# Altium integrated library Renesas Microcontroller R32C.IntLib: 205 symbols (part 7 of 22)
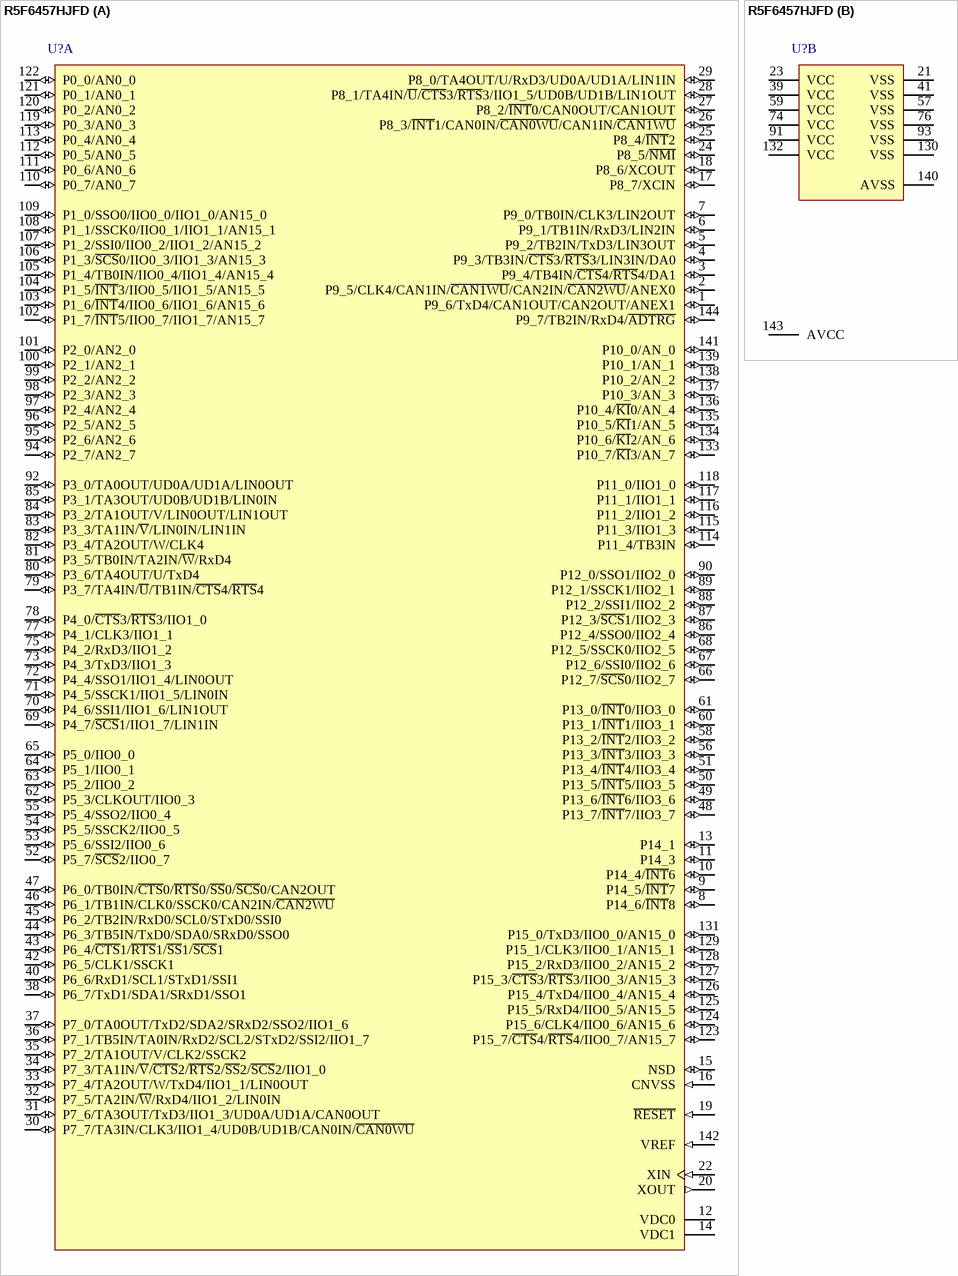
[diagram p145: symbol R5F6457HJFD]

## R5F6457HJFD
designator U?
Flash Memory R32C/100 Series, 157 Group MCU, 512K + 8K ROM, 32K RAM, 144-pin LQFP, Version J; Published: 28-Aug-2009; LatestRevisionDate: 26-Feb-2010; LatestRevisionNote: Updated to datasheet revision 1.02 Nov-2009.; DatasheetVersion: Rev.1.02, Nov-2009; PackageVersion: Sep-2005; PackageReference: PLQP0144KA-A; Publisher: Altium Limited; PackageDescription: 144-Pin Plastic Low Profile QFP, 20 x 20 x 1.4 mm Body, 0.5 mm Pitch; Code_JEITA: P-LQFP144-20x20-0.50; Code_IPC: SQFP50P2200X2200-144; ComponentLink1Description: Manufacturer Link; ComponentLink1URL: http://sg.renesas.com/fmwk.jsp?cnt=m16c_family_landing.jsp&fp=/products/mpumcu/m16c_family/; ComponentLink2Description: Datasheet; ComponentLink2URL: http://documentation.renesas.com/eng/products/mpumcu/rej03b0234_r32c157ds.pdf; ComponentLink3Description: Packaging Specification; ComponentLink3URL: http://sg.renesas.com/media/products/common_info/package/pdf/ic/code/plqp0144ka_a.pdf
footprint PLQP0144KA-A_N (Shrink QFP, 144-Leads, Body 20x20mm, Pitch 0.5mm, IPC Medium Density)
footprint PLQP0144KA-A_L (Shrink QFP, 144-Leads, Body 20x20mm, Pitch 0.5mm, IPC High Density)
footprint PLQP0144KA-A_M (Shrink QFP, 144-Leads, Body 20x20mm, Pitch 0.5mm, IPC Low Density)
part A pins: 1 P9_6/TxD4/CAN1OUT/CAN2OUT/ANEX1 (io), 2 P9_5/CLK4/CAN1IN/~{CAN1WU}/CAN2IN/~{CAN2WU}/ANEX0 (io), 3 P9_4/TB4IN/~{CTS}4/~{RTS}4/DA1 (io), 4 P9_3/TB3IN/~{CTS}3/~{RTS}3/LIN3IN/DA0 (io), 5 P9_2/TB2IN/TxD3/LIN3OUT (io), 6 P9_1/TB1IN/RxD3/LIN2IN (io), 7 P9_0/TB0IN/CLK3/LIN2OUT (io), 8 P14_6/~{INT}8 (io), 9 P14_5/~{INT}7 (io), 10 P14_4/~{INT}6 (io), 11 P14_3 (io), 12 VDC0, 13 P14_1 (io), 14 VDC1, 15 NSD (io), 16 CNVSS (in), 17 P8_7/XCIN (io), 18 P8_6/XCOUT (io), 19 ~{RESET} (in), 20 XOUT (out), 22 XIN (in), 24 P8_5/~{NMI} (io), 25 P8_4/~{INT}2 (io), 26 P8_3/~{INT}1/CAN0IN/~{CAN0WU}/CAN1IN/~{CAN1WU} (io), 27 P8_2/~{INT}0/CAN0OUT/CAN1OUT (io), 28 P8_1/TA4IN/~{U}/~{CTS}3/~{RTS}3/IIO1_5/UD0B/UD1B/LIN1OUT (io), 29 P8_0/TA4OUT/U/RxD3/UD0A/UD1A/LIN1IN (io), 30 P7_7/TA3IN/CLK3/IIO1_4/UD0B/UD1B/CAN0IN/~{CAN0WU} (io), 31 P7_6/TA3OUT/TxD3/IIO1_3/UD0A/UD1A/CAN0OUT (io), 32 P7_5/TA2IN/~{W}/RxD4/IIO1_2/LIN0IN (io), 33 P7_4/TA2OUT/W/TxD4/IIO1_1/LIN0OUT (io), 34 P7_3/TA1IN/~{V}/~{CTS}2/~{RTS}2/~{SS}2/~{SCS}2/IIO1_0 (io), 35 P7_2/TA1OUT/V/CLK2/SSCK2 (io), 36 P7_1/TB5IN/TA0IN/RxD2/SCL2/STxD2/SSI2/IIO1_7 (io), 37 P7_0/TA0OUT/TxD2/SDA2/SRxD2/SSO2/IIO1_6 (io), 38 P6_7/TxD1/SDA1/SRxD1/SSO1 (io), 40 P6_6/RxD1/SCL1/STxD1/SSI1 (io), 42 P6_5/CLK1/SSCK1 (io), 43 P6_4/~{CTS}1/~{RTS}1/~{SS}1/~{SCS}1 (io), 44 P6_3/TB5IN/TxD0/SDA0/SRxD0/SSO0 (io), 45 P6_2/TB2IN/RxD0/SCL0/STxD0/SSI0 (io), 46 P6_1/TB1IN/CLK0/SSCK0/CAN2IN/~{CAN2WU} (io), 47 P6_0/TB0IN/~{CTS}0/~{RTS}0/~{SS}0/~{SCS}0/CAN2OUT (io), 48 P13_7/~{INT}7/IIO3_7 (io), 49 P13_6/~{INT}6/IIO3_6 (io), 50 P13_5/~{INT}5/IIO3_5 (io), 51 P13_4/~{INT}4/IIO3_4 (io), 52 P5_7/~{SCS}2/IIO0_7 (io), 53 P5_6/SSI2/IIO0_6 (io), 54 P5_5/SSCK2/IIO0_5 (io), 55 P5_4/SSO2/IIO0_4 (io), 56 P13_3/~{INT}3/IIO3_3 (io), 58 P13_2/~{INT}2/IIO3_2 (io), 60 P13_1/~{INT}1/IIO3_1 (io), 61 P13_0/~{INT}0/IIO3_0 (io), 62 P5_3/CLKOUT/IIO0_3 (io), 63 P5_2/IIO0_2 (io), 64 P5_1/IIO0_1 (io), 65 P5_0/IIO0_0 (io), 66 P12_7/~{SCS}0/IIO2_7 (io), 67 P12_6/SSI0/IIO2_6 (io), 68 P12_5/SSCK0/IIO2_5 (io), 69 P4_7/~{SCS}1/IIO1_7/LIN1IN (io), 70 P4_6/SSI1/IIO1_6/LIN1OUT (io), 71 P4_5/SSCK1/IIO1_5/LIN0IN (io), 72 P4_4/SSO1/IIO1_4/LIN0OUT (io), 73 P4_3/TxD3/IIO1_3 (io), 75 P4_2/RxD3/IIO1_2 (io), 77 P4_1/CLK3/IIO1_1 (io), 78 P4_0/~{CTS}3/~{RTS}3/IIO1_0 (io), 79 P3_7/TA4IN/~{U}/TB1IN/~{CTS}4/~{RTS}4 (io), 80 P3_6/TA4OUT/U/TxD4 (io), 81 P3_5/TB0IN/TA2IN/~{W}/RxD4 (io), 82 P3_4/TA2OUT/W/CLK4 (io), 83 P3_3/TA1IN/~{V}/LIN0IN/LIN1IN (io), 84 P3_2/TA1OUT/V/LIN0OUT/LIN1OUT (io), 85 P3_1/TA3OUT/UD0B/UD1B/LIN0IN (io), 86 P12_4/SSO0/IIO2_4 (io), 87 P12_3/~{SCS}1/IIO2_3 (io), 88 P12_2/SSI1/IIO2_2 (io), 89 P12_1/SSCK1/IIO2_1 (io), 90 P12_0/SSO1/IIO2_0 (io), 92 P3_0/TA0OUT/UD0A/UD1A/LIN0OUT (io), 94 P2_7/AN2_7 (io), 95 P2_6/AN2_6 (io), 96 P2_5/AN2_5 (io), 97 P2_4/AN2_4 (io), 98 P2_3/AN2_3 (io), 99 P2_2/AN2_2 (io), 100 P2_1/AN2_1 (io), 101 P2_0/AN2_0 (io), 102 P1_7/~{INT}5/IIO0_7/IIO1_7/AN15_7 (io), 103 P1_6/~{INT}4/IIO0_6/IIO1_6/AN15_6 (io), 104 P1_5/~{INT}3/IIO0_5/IIO1_5/AN15_5 (io), 105 P1_4/TB0IN/IIO0_4/IIO1_4/AN15_4 (io), 106 P1_3/~{SCS}0/IIO0_3/IIO1_3/AN15_3 (io), 107 P1_2/SSI0/IIO0_2/IIO1_2/AN15_2 (io), 108 P1_1/SSCK0/IIO0_1/IIO1_1/AN15_1 (io), 109 P1_0/SSO0/IIO0_0/IIO1_0/AN15_0 (io), 110 P0_7/AN0_7 (io), 111 P0_6/AN0_6 (io), 112 P0_5/AN0_5 (io), 113 P0_4/AN0_4 (io), 114 P11_4/TB3IN (io), 115 P11_3/IIO1_3 (io), 116 P11_2/IIO1_2 (io), 117 P11_1/IIO1_1 (io), 118 P11_0/IIO1_0 (io), 119 P0_3/AN0_3 (io), 120 P0_2/AN0_2 (io), 121 P0_1/AN0_1 (io), 122 P0_0/AN0_0 (io), 123 P15_7/~{CTS}4/~{RTS}4/IIO0_7/AN15_7 (io), 124 P15_6/CLK4/IIO0_6/AN15_6 (io), 125 P15_5/RxD4/IIO0_5/AN15_5 (io), 126 P15_4/TxD4/IIO0_4/AN15_4 (io), 127 P15_3/~{CTS}3/~{RTS}3/IIO0_3/AN15_3 (io), 128 P15_2/RxD3/IIO0_2/AN15_2 (io), 129 P15_1/CLK3/IIO0_1/AN15_1 (io), 131 P15_0/TxD3/IIO0_0/AN15_0 (io), 133 P10_7/~{KI}3/AN_7 (io), 134 P10_6/~{KI}2/AN_6 (io), 135 P10_5/~{KI}1/AN_5 (io), 136 P10_4/~{KI}0/AN_4 (io), 137 P10_3/AN_3 (io), 138 P10_2/AN_2 (io), 139 P10_1/AN_1 (io), 141 P10_0/AN_0 (io), 142 VREF (in), 144 P9_7/TB2IN/RxD4/~{ADTRG} (io)
part B pins: 21 VSS (power), 23 VCC (power), 39 VCC (power), 41 VSS (power), 57 VSS (power), 59 VCC (power), 74 VCC (power), 76 VSS (power), 91 VCC (power), 93 VSS (power), 130 VSS (power), 132 VCC (power), 140 AVSS (power), 143 AVCC (power)

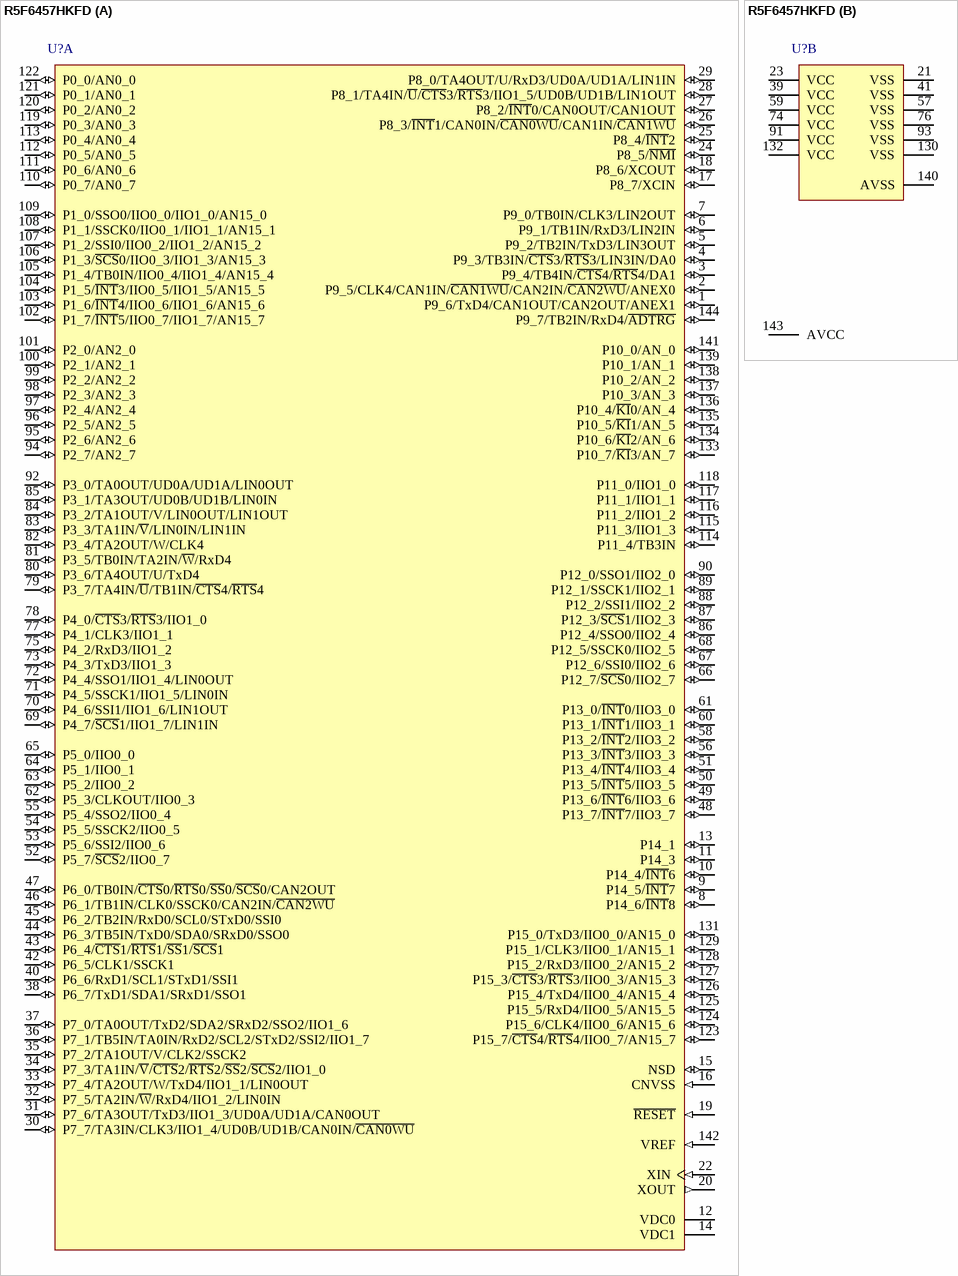
[diagram p33: symbol R5F6457HKFD]

## R5F6457HKFD
designator U?
Flash Memory R32C/100 Series, 157 Group MCU, 512K + 8K ROM, 32K RAM, 144-pin LQFP, Version K; Published: 28-Aug-2009; LatestRevisionDate: 26-Feb-2010; LatestRevisionNote: Updated to datasheet revision 1.02 Nov-2009.; DatasheetVersion: Rev.1.02, Nov-2009; PackageVersion: Sep-2005; PackageReference: PLQP0144KA-A; Publisher: Altium Limited; PackageDescription: 144-Pin Plastic Low Profile QFP, 20 x 20 x 1.4 mm Body, 0.5 mm Pitch; Code_JEITA: P-LQFP144-20x20-0.50; Code_IPC: SQFP50P2200X2200-144; ComponentLink1Description: Manufacturer Link; ComponentLink1URL: http://sg.renesas.com/fmwk.jsp?cnt=m16c_family_landing.jsp&fp=/products/mpumcu/m16c_family/; ComponentLink2Description: Datasheet; ComponentLink2URL: http://documentation.renesas.com/eng/products/mpumcu/rej03b0234_r32c157ds.pdf; ComponentLink3Description: Packaging Specification; ComponentLink3URL: http://sg.renesas.com/media/products/common_info/package/pdf/ic/code/plqp0144ka_a.pdf
footprint PLQP0144KA-A_N (Shrink QFP, 144-Leads, Body 20x20mm, Pitch 0.5mm, IPC Medium Density)
footprint PLQP0144KA-A_L (Shrink QFP, 144-Leads, Body 20x20mm, Pitch 0.5mm, IPC High Density)
footprint PLQP0144KA-A_M (Shrink QFP, 144-Leads, Body 20x20mm, Pitch 0.5mm, IPC Low Density)
part A pins: 1 P9_6/TxD4/CAN1OUT/CAN2OUT/ANEX1 (io), 2 P9_5/CLK4/CAN1IN/~{CAN1WU}/CAN2IN/~{CAN2WU}/ANEX0 (io), 3 P9_4/TB4IN/~{CTS}4/~{RTS}4/DA1 (io), 4 P9_3/TB3IN/~{CTS}3/~{RTS}3/LIN3IN/DA0 (io), 5 P9_2/TB2IN/TxD3/LIN3OUT (io), 6 P9_1/TB1IN/RxD3/LIN2IN (io), 7 P9_0/TB0IN/CLK3/LIN2OUT (io), 8 P14_6/~{INT}8 (io), 9 P14_5/~{INT}7 (io), 10 P14_4/~{INT}6 (io), 11 P14_3 (io), 12 VDC0, 13 P14_1 (io), 14 VDC1, 15 NSD (io), 16 CNVSS (in), 17 P8_7/XCIN (io), 18 P8_6/XCOUT (io), 19 ~{RESET} (in), 20 XOUT (out), 22 XIN (in), 24 P8_5/~{NMI} (io), 25 P8_4/~{INT}2 (io), 26 P8_3/~{INT}1/CAN0IN/~{CAN0WU}/CAN1IN/~{CAN1WU} (io), 27 P8_2/~{INT}0/CAN0OUT/CAN1OUT (io), 28 P8_1/TA4IN/~{U}/~{CTS}3/~{RTS}3/IIO1_5/UD0B/UD1B/LIN1OUT (io), 29 P8_0/TA4OUT/U/RxD3/UD0A/UD1A/LIN1IN (io), 30 P7_7/TA3IN/CLK3/IIO1_4/UD0B/UD1B/CAN0IN/~{CAN0WU} (io), 31 P7_6/TA3OUT/TxD3/IIO1_3/UD0A/UD1A/CAN0OUT (io), 32 P7_5/TA2IN/~{W}/RxD4/IIO1_2/LIN0IN (io), 33 P7_4/TA2OUT/W/TxD4/IIO1_1/LIN0OUT (io), 34 P7_3/TA1IN/~{V}/~{CTS}2/~{RTS}2/~{SS}2/~{SCS}2/IIO1_0 (io), 35 P7_2/TA1OUT/V/CLK2/SSCK2 (io), 36 P7_1/TB5IN/TA0IN/RxD2/SCL2/STxD2/SSI2/IIO1_7 (io), 37 P7_0/TA0OUT/TxD2/SDA2/SRxD2/SSO2/IIO1_6 (io), 38 P6_7/TxD1/SDA1/SRxD1/SSO1 (io), 40 P6_6/RxD1/SCL1/STxD1/SSI1 (io), 42 P6_5/CLK1/SSCK1 (io), 43 P6_4/~{CTS}1/~{RTS}1/~{SS}1/~{SCS}1 (io), 44 P6_3/TB5IN/TxD0/SDA0/SRxD0/SSO0 (io), 45 P6_2/TB2IN/RxD0/SCL0/STxD0/SSI0 (io), 46 P6_1/TB1IN/CLK0/SSCK0/CAN2IN/~{CAN2WU} (io), 47 P6_0/TB0IN/~{CTS}0/~{RTS}0/~{SS}0/~{SCS}0/CAN2OUT (io), 48 P13_7/~{INT}7/IIO3_7 (io), 49 P13_6/~{INT}6/IIO3_6 (io), 50 P13_5/~{INT}5/IIO3_5 (io), 51 P13_4/~{INT}4/IIO3_4 (io), 52 P5_7/~{SCS}2/IIO0_7 (io), 53 P5_6/SSI2/IIO0_6 (io), 54 P5_5/SSCK2/IIO0_5 (io), 55 P5_4/SSO2/IIO0_4 (io), 56 P13_3/~{INT}3/IIO3_3 (io), 58 P13_2/~{INT}2/IIO3_2 (io), 60 P13_1/~{INT}1/IIO3_1 (io), 61 P13_0/~{INT}0/IIO3_0 (io), 62 P5_3/CLKOUT/IIO0_3 (io), 63 P5_2/IIO0_2 (io), 64 P5_1/IIO0_1 (io), 65 P5_0/IIO0_0 (io), 66 P12_7/~{SCS}0/IIO2_7 (io), 67 P12_6/SSI0/IIO2_6 (io), 68 P12_5/SSCK0/IIO2_5 (io), 69 P4_7/~{SCS}1/IIO1_7/LIN1IN (io), 70 P4_6/SSI1/IIO1_6/LIN1OUT (io), 71 P4_5/SSCK1/IIO1_5/LIN0IN (io), 72 P4_4/SSO1/IIO1_4/LIN0OUT (io), 73 P4_3/TxD3/IIO1_3 (io), 75 P4_2/RxD3/IIO1_2 (io), 77 P4_1/CLK3/IIO1_1 (io), 78 P4_0/~{CTS}3/~{RTS}3/IIO1_0 (io), 79 P3_7/TA4IN/~{U}/TB1IN/~{CTS}4/~{RTS}4 (io), 80 P3_6/TA4OUT/U/TxD4 (io), 81 P3_5/TB0IN/TA2IN/~{W}/RxD4 (io), 82 P3_4/TA2OUT/W/CLK4 (io), 83 P3_3/TA1IN/~{V}/LIN0IN/LIN1IN (io), 84 P3_2/TA1OUT/V/LIN0OUT/LIN1OUT (io), 85 P3_1/TA3OUT/UD0B/UD1B/LIN0IN (io), 86 P12_4/SSO0/IIO2_4 (io), 87 P12_3/~{SCS}1/IIO2_3 (io), 88 P12_2/SSI1/IIO2_2 (io), 89 P12_1/SSCK1/IIO2_1 (io), 90 P12_0/SSO1/IIO2_0 (io), 92 P3_0/TA0OUT/UD0A/UD1A/LIN0OUT (io), 94 P2_7/AN2_7 (io), 95 P2_6/AN2_6 (io), 96 P2_5/AN2_5 (io), 97 P2_4/AN2_4 (io), 98 P2_3/AN2_3 (io), 99 P2_2/AN2_2 (io), 100 P2_1/AN2_1 (io), 101 P2_0/AN2_0 (io), 102 P1_7/~{INT}5/IIO0_7/IIO1_7/AN15_7 (io), 103 P1_6/~{INT}4/IIO0_6/IIO1_6/AN15_6 (io), 104 P1_5/~{INT}3/IIO0_5/IIO1_5/AN15_5 (io), 105 P1_4/TB0IN/IIO0_4/IIO1_4/AN15_4 (io), 106 P1_3/~{SCS}0/IIO0_3/IIO1_3/AN15_3 (io), 107 P1_2/SSI0/IIO0_2/IIO1_2/AN15_2 (io), 108 P1_1/SSCK0/IIO0_1/IIO1_1/AN15_1 (io), 109 P1_0/SSO0/IIO0_0/IIO1_0/AN15_0 (io), 110 P0_7/AN0_7 (io), 111 P0_6/AN0_6 (io), 112 P0_5/AN0_5 (io), 113 P0_4/AN0_4 (io), 114 P11_4/TB3IN (io), 115 P11_3/IIO1_3 (io), 116 P11_2/IIO1_2 (io), 117 P11_1/IIO1_1 (io), 118 P11_0/IIO1_0 (io), 119 P0_3/AN0_3 (io), 120 P0_2/AN0_2 (io), 121 P0_1/AN0_1 (io), 122 P0_0/AN0_0 (io), 123 P15_7/~{CTS}4/~{RTS}4/IIO0_7/AN15_7 (io), 124 P15_6/CLK4/IIO0_6/AN15_6 (io), 125 P15_5/RxD4/IIO0_5/AN15_5 (io), 126 P15_4/TxD4/IIO0_4/AN15_4 (io), 127 P15_3/~{CTS}3/~{RTS}3/IIO0_3/AN15_3 (io), 128 P15_2/RxD3/IIO0_2/AN15_2 (io), 129 P15_1/CLK3/IIO0_1/AN15_1 (io), 131 P15_0/TxD3/IIO0_0/AN15_0 (io), 133 P10_7/~{KI}3/AN_7 (io), 134 P10_6/~{KI}2/AN_6 (io), 135 P10_5/~{KI}1/AN_5 (io), 136 P10_4/~{KI}0/AN_4 (io), 137 P10_3/AN_3 (io), 138 P10_2/AN_2 (io), 139 P10_1/AN_1 (io), 141 P10_0/AN_0 (io), 142 VREF (in), 144 P9_7/TB2IN/RxD4/~{ADTRG} (io)
part B pins: 21 VSS (power), 23 VCC (power), 39 VCC (power), 41 VSS (power), 57 VSS (power), 59 VCC (power), 74 VCC (power), 76 VSS (power), 91 VCC (power), 93 VSS (power), 130 VSS (power), 132 VCC (power), 140 AVSS (power), 143 AVCC (power)

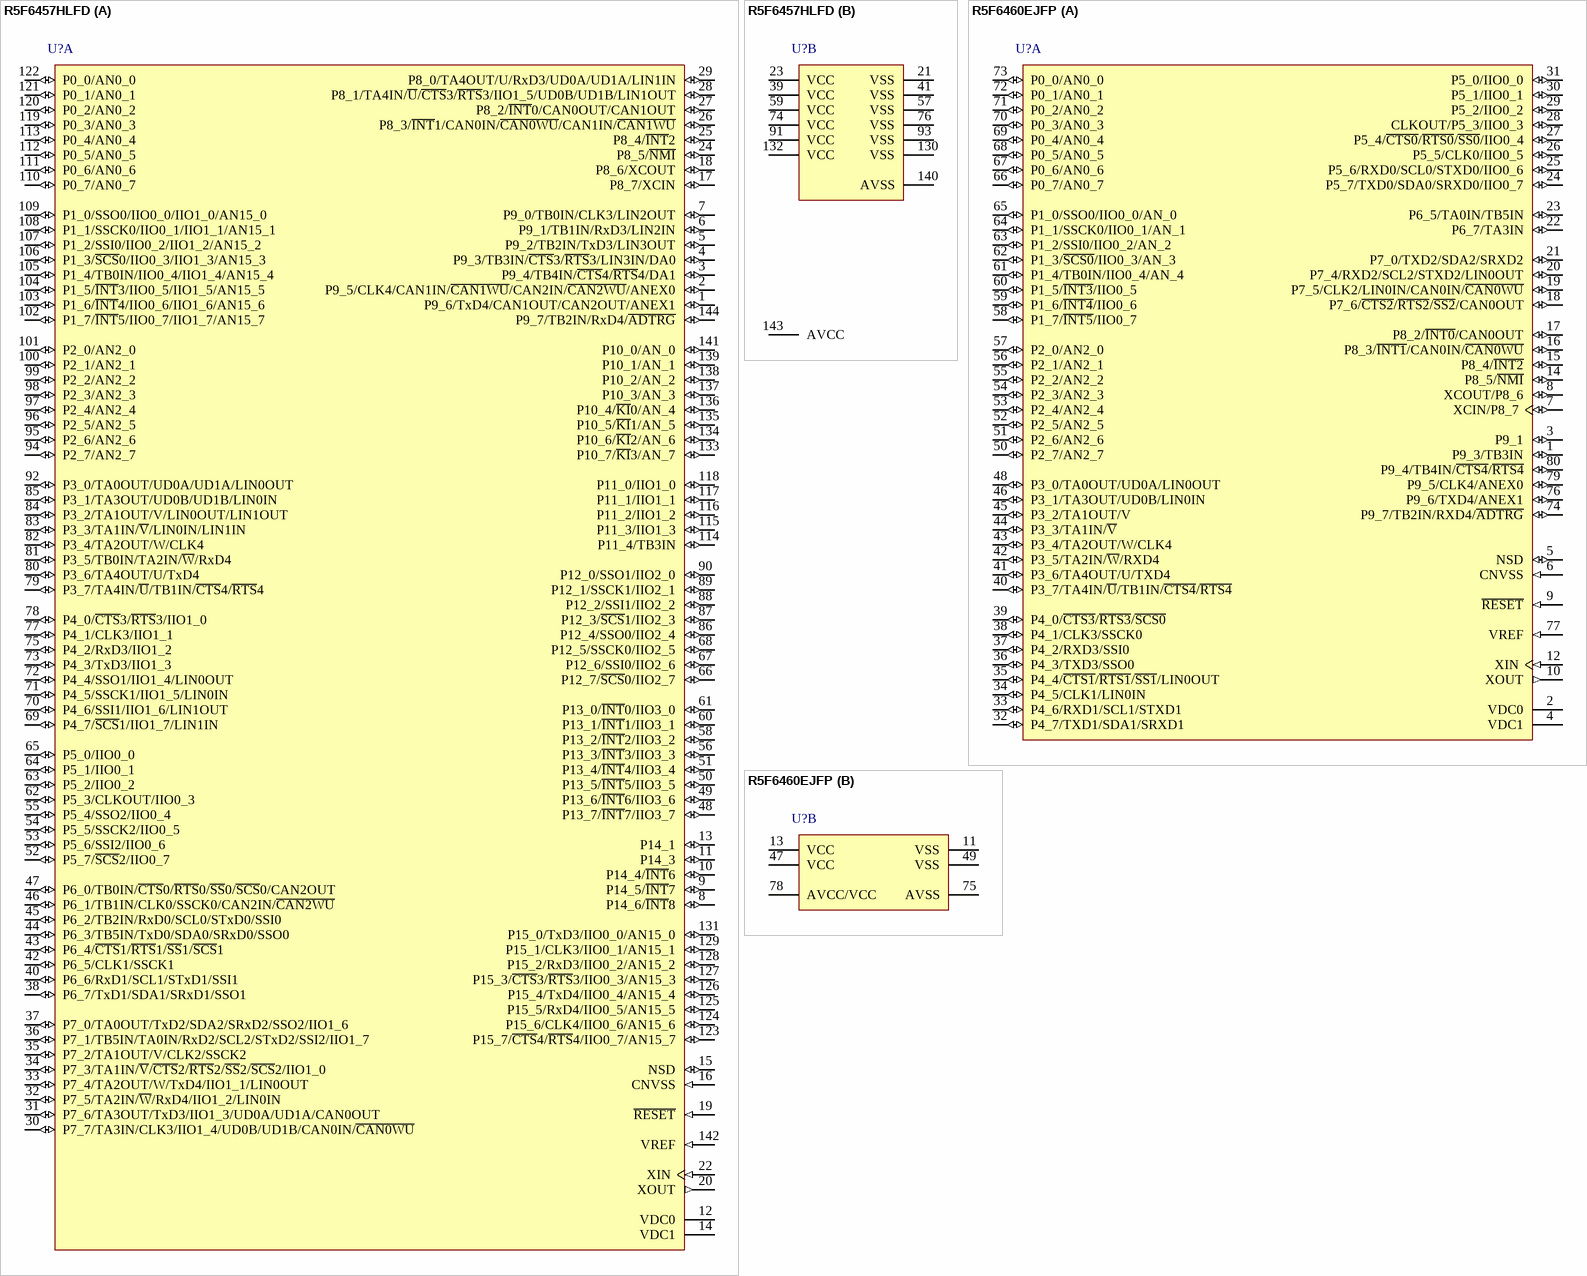
[diagram p34: symbols R5F6457HLFD to R5F6460EJFP]

## R5F6457HLFD
designator U?
Flash Memory R32C/100 Series, 157 Group MCU, 512K + 8K ROM, 32K RAM, 144-pin LQFP, Version L; Published: 28-Aug-2009; LatestRevisionDate: 26-Feb-2010; LatestRevisionNote: Updated to datasheet revision 1.02 Nov-2009.; DatasheetVersion: Rev.1.02, Nov-2009; PackageVersion: Sep-2005; PackageReference: PLQP0144KA-A; Publisher: Altium Limited; PackageDescription: 144-Pin Plastic Low Profile QFP, 20 x 20 x 1.4 mm Body, 0.5 mm Pitch; Code_JEITA: P-LQFP144-20x20-0.50; Code_IPC: SQFP50P2200X2200-144; ComponentLink1Description: Manufacturer Link; ComponentLink1URL: http://sg.renesas.com/fmwk.jsp?cnt=m16c_family_landing.jsp&fp=/products/mpumcu/m16c_family/; ComponentLink2Description: Datasheet; ComponentLink2URL: http://documentation.renesas.com/eng/products/mpumcu/rej03b0234_r32c157ds.pdf; ComponentLink3Description: Packaging Specification; ComponentLink3URL: http://sg.renesas.com/media/products/common_info/package/pdf/ic/code/plqp0144ka_a.pdf
footprint PLQP0144KA-A_N (Shrink QFP, 144-Leads, Body 20x20mm, Pitch 0.5mm, IPC Medium Density)
footprint PLQP0144KA-A_L (Shrink QFP, 144-Leads, Body 20x20mm, Pitch 0.5mm, IPC High Density)
footprint PLQP0144KA-A_M (Shrink QFP, 144-Leads, Body 20x20mm, Pitch 0.5mm, IPC Low Density)
part A pins: 1 P9_6/TxD4/CAN1OUT/CAN2OUT/ANEX1 (io), 2 P9_5/CLK4/CAN1IN/~{CAN1WU}/CAN2IN/~{CAN2WU}/ANEX0 (io), 3 P9_4/TB4IN/~{CTS}4/~{RTS}4/DA1 (io), 4 P9_3/TB3IN/~{CTS}3/~{RTS}3/LIN3IN/DA0 (io), 5 P9_2/TB2IN/TxD3/LIN3OUT (io), 6 P9_1/TB1IN/RxD3/LIN2IN (io), 7 P9_0/TB0IN/CLK3/LIN2OUT (io), 8 P14_6/~{INT}8 (io), 9 P14_5/~{INT}7 (io), 10 P14_4/~{INT}6 (io), 11 P14_3 (io), 12 VDC0, 13 P14_1 (io), 14 VDC1, 15 NSD (io), 16 CNVSS (in), 17 P8_7/XCIN (io), 18 P8_6/XCOUT (io), 19 ~{RESET} (in), 20 XOUT (out), 22 XIN (in), 24 P8_5/~{NMI} (io), 25 P8_4/~{INT}2 (io), 26 P8_3/~{INT}1/CAN0IN/~{CAN0WU}/CAN1IN/~{CAN1WU} (io), 27 P8_2/~{INT}0/CAN0OUT/CAN1OUT (io), 28 P8_1/TA4IN/~{U}/~{CTS}3/~{RTS}3/IIO1_5/UD0B/UD1B/LIN1OUT (io), 29 P8_0/TA4OUT/U/RxD3/UD0A/UD1A/LIN1IN (io), 30 P7_7/TA3IN/CLK3/IIO1_4/UD0B/UD1B/CAN0IN/~{CAN0WU} (io), 31 P7_6/TA3OUT/TxD3/IIO1_3/UD0A/UD1A/CAN0OUT (io), 32 P7_5/TA2IN/~{W}/RxD4/IIO1_2/LIN0IN (io), 33 P7_4/TA2OUT/W/TxD4/IIO1_1/LIN0OUT (io), 34 P7_3/TA1IN/~{V}/~{CTS}2/~{RTS}2/~{SS}2/~{SCS}2/IIO1_0 (io), 35 P7_2/TA1OUT/V/CLK2/SSCK2 (io), 36 P7_1/TB5IN/TA0IN/RxD2/SCL2/STxD2/SSI2/IIO1_7 (io), 37 P7_0/TA0OUT/TxD2/SDA2/SRxD2/SSO2/IIO1_6 (io), 38 P6_7/TxD1/SDA1/SRxD1/SSO1 (io), 40 P6_6/RxD1/SCL1/STxD1/SSI1 (io), 42 P6_5/CLK1/SSCK1 (io), 43 P6_4/~{CTS}1/~{RTS}1/~{SS}1/~{SCS}1 (io), 44 P6_3/TB5IN/TxD0/SDA0/SRxD0/SSO0 (io), 45 P6_2/TB2IN/RxD0/SCL0/STxD0/SSI0 (io), 46 P6_1/TB1IN/CLK0/SSCK0/CAN2IN/~{CAN2WU} (io), 47 P6_0/TB0IN/~{CTS}0/~{RTS}0/~{SS}0/~{SCS}0/CAN2OUT (io), 48 P13_7/~{INT}7/IIO3_7 (io), 49 P13_6/~{INT}6/IIO3_6 (io), 50 P13_5/~{INT}5/IIO3_5 (io), 51 P13_4/~{INT}4/IIO3_4 (io), 52 P5_7/~{SCS}2/IIO0_7 (io), 53 P5_6/SSI2/IIO0_6 (io), 54 P5_5/SSCK2/IIO0_5 (io), 55 P5_4/SSO2/IIO0_4 (io), 56 P13_3/~{INT}3/IIO3_3 (io), 58 P13_2/~{INT}2/IIO3_2 (io), 60 P13_1/~{INT}1/IIO3_1 (io), 61 P13_0/~{INT}0/IIO3_0 (io), 62 P5_3/CLKOUT/IIO0_3 (io), 63 P5_2/IIO0_2 (io), 64 P5_1/IIO0_1 (io), 65 P5_0/IIO0_0 (io), 66 P12_7/~{SCS}0/IIO2_7 (io), 67 P12_6/SSI0/IIO2_6 (io), 68 P12_5/SSCK0/IIO2_5 (io), 69 P4_7/~{SCS}1/IIO1_7/LIN1IN (io), 70 P4_6/SSI1/IIO1_6/LIN1OUT (io), 71 P4_5/SSCK1/IIO1_5/LIN0IN (io), 72 P4_4/SSO1/IIO1_4/LIN0OUT (io), 73 P4_3/TxD3/IIO1_3 (io), 75 P4_2/RxD3/IIO1_2 (io), 77 P4_1/CLK3/IIO1_1 (io), 78 P4_0/~{CTS}3/~{RTS}3/IIO1_0 (io), 79 P3_7/TA4IN/~{U}/TB1IN/~{CTS}4/~{RTS}4 (io), 80 P3_6/TA4OUT/U/TxD4 (io), 81 P3_5/TB0IN/TA2IN/~{W}/RxD4 (io), 82 P3_4/TA2OUT/W/CLK4 (io), 83 P3_3/TA1IN/~{V}/LIN0IN/LIN1IN (io), 84 P3_2/TA1OUT/V/LIN0OUT/LIN1OUT (io), 85 P3_1/TA3OUT/UD0B/UD1B/LIN0IN (io), 86 P12_4/SSO0/IIO2_4 (io), 87 P12_3/~{SCS}1/IIO2_3 (io), 88 P12_2/SSI1/IIO2_2 (io), 89 P12_1/SSCK1/IIO2_1 (io), 90 P12_0/SSO1/IIO2_0 (io), 92 P3_0/TA0OUT/UD0A/UD1A/LIN0OUT (io), 94 P2_7/AN2_7 (io), 95 P2_6/AN2_6 (io), 96 P2_5/AN2_5 (io), 97 P2_4/AN2_4 (io), 98 P2_3/AN2_3 (io), 99 P2_2/AN2_2 (io), 100 P2_1/AN2_1 (io), 101 P2_0/AN2_0 (io), 102 P1_7/~{INT}5/IIO0_7/IIO1_7/AN15_7 (io), 103 P1_6/~{INT}4/IIO0_6/IIO1_6/AN15_6 (io), 104 P1_5/~{INT}3/IIO0_5/IIO1_5/AN15_5 (io), 105 P1_4/TB0IN/IIO0_4/IIO1_4/AN15_4 (io), 106 P1_3/~{SCS}0/IIO0_3/IIO1_3/AN15_3 (io), 107 P1_2/SSI0/IIO0_2/IIO1_2/AN15_2 (io), 108 P1_1/SSCK0/IIO0_1/IIO1_1/AN15_1 (io), 109 P1_0/SSO0/IIO0_0/IIO1_0/AN15_0 (io), 110 P0_7/AN0_7 (io), 111 P0_6/AN0_6 (io), 112 P0_5/AN0_5 (io), 113 P0_4/AN0_4 (io), 114 P11_4/TB3IN (io), 115 P11_3/IIO1_3 (io), 116 P11_2/IIO1_2 (io), 117 P11_1/IIO1_1 (io), 118 P11_0/IIO1_0 (io), 119 P0_3/AN0_3 (io), 120 P0_2/AN0_2 (io), 121 P0_1/AN0_1 (io), 122 P0_0/AN0_0 (io), 123 P15_7/~{CTS}4/~{RTS}4/IIO0_7/AN15_7 (io), 124 P15_6/CLK4/IIO0_6/AN15_6 (io), 125 P15_5/RxD4/IIO0_5/AN15_5 (io), 126 P15_4/TxD4/IIO0_4/AN15_4 (io), 127 P15_3/~{CTS}3/~{RTS}3/IIO0_3/AN15_3 (io), 128 P15_2/RxD3/IIO0_2/AN15_2 (io), 129 P15_1/CLK3/IIO0_1/AN15_1 (io), 131 P15_0/TxD3/IIO0_0/AN15_0 (io), 133 P10_7/~{KI}3/AN_7 (io), 134 P10_6/~{KI}2/AN_6 (io), 135 P10_5/~{KI}1/AN_5 (io), 136 P10_4/~{KI}0/AN_4 (io), 137 P10_3/AN_3 (io), 138 P10_2/AN_2 (io), 139 P10_1/AN_1 (io), 141 P10_0/AN_0 (io), 142 VREF (in), 144 P9_7/TB2IN/RxD4/~{ADTRG} (io)
part B pins: 21 VSS (power), 23 VCC (power), 39 VCC (power), 41 VSS (power), 57 VSS (power), 59 VCC (power), 74 VCC (power), 76 VSS (power), 91 VCC (power), 93 VSS (power), 130 VSS (power), 132 VCC (power), 140 AVSS (power), 143 AVCC (power)

## R5F6460EJFP
designator U?
Flash Memory R32C/100 Series, 160 Group MCU, 128K + 8K ROM, 12K RAM, 80-pin LQFP, Version J; Published: 28-Aug-2009; LatestRevisionDate: 26-Feb-2010; LatestRevisionNote: Updated to datasheet revision 1.01 Dec-2009.; DatasheetVersion: Rev.1.01, Dec-2009; PackageVersion: Sep-2005; PackageReference: PLQP0080KB-A; Publisher: Altium Limited; PackageDescription: 80-Pin Plastic Low Profile QFP, 12 x 12 x 1.4 mm Body, 0.5 mm Pitch; Code_JEITA: P-LQFP80-12x12-0.50; Code_IPC: SQFP50P1400X1400-80; ComponentLink1Description: Manufacturer Link; ComponentLink1URL: http://sg.renesas.com/fmwk.jsp?cnt=m16c_family_landing.jsp&fp=/products/mpumcu/m16c_family/; ComponentLink2Description: Datasheet; ComponentLink2URL: http://documentation.renesas.com/eng/products/mpumcu/rej03b0240_r32c160ds.pdf; ComponentLink3Description: Packaging Specification; ComponentLink3URL: http://sg.renesas.com/media/products/common_info/package/pdf/ic/code/plqp0080kb_a.pdf
footprint PLQP0080KB-A_N (Shrink QFP, 80-Leads, Body 12x12mm, Pitch 0.5mm, IPC Medium Density)
footprint PLQP0080KB-A_L (Shrink QFP, 80-Leads, Body 12x12mm, Pitch 0.5mm, IPC High Density)
footprint PLQP0080KB-A_M (Shrink QFP, 80-Leads, Body 12x12mm, Pitch 0.5mm, IPC Low Density)
part A pins: 1 P9_3/TB3IN (io), 2 VDC0, 3 P9_1 (io), 4 VDC1, 5 NSD (io), 6 CNVSS (in), 7 XCIN/P8_7 (io), 8 XCOUT/P8_6 (io), 9 ~{RESET} (in), 10 XOUT (out), 12 XIN (in), 14 P8_5/~{NMI} (io), 15 P8_4/~{INT2} (io), 16 P8_3/~{INT1}/CAN0IN/~{CAN0WU} (io), 17 P8_2/~{INT0}/CAN0OUT (io), 18 P7_6/~{CTS2}/~{RTS2}/~{SS2}/CAN0OUT (io), 19 P7_5/CLK2/LIN0IN/CAN0IN/~{CAN0WU} (io), 20 P7_4/RXD2/SCL2/STXD2/LIN0OUT (io), 21 P7_0/TXD2/SDA2/SRXD2 (io), 22 P6_7/TA3IN (io), 23 P6_5/TA0IN/TB5IN (io), 24 P5_7/TXD0/SDA0/SRXD0/IIO0_7 (io), 25 P5_6/RXD0/SCL0/STXD0/IIO0_6 (io), 26 P5_5/CLK0/IIO0_5 (io), 27 P5_4/~{CTS0}/~{RTS0}/~{SS0}/IIO0_4 (io), 28 CLKOUT/P5_3/IIO0_3 (io), 29 P5_2/IIO0_2 (io), 30 P5_1/IIO0_1 (io), 31 P5_0/IIO0_0 (io), 32 P4_7/TXD1/SDA1/SRXD1 (io), 33 P4_6/RXD1/SCL1/STXD1 (io), 34 P4_5/CLK1/LIN0IN (io), 35 P4_4/~{CTS1}/~{RTS1}/~{SS1}/LIN0OUT (io), 36 P4_3/TXD3/SSO0 (io), 37 P4_2/RXD3/SSI0 (io), 38 P4_1/CLK3/SSCK0 (io), 39 P4_0/~{CTS3}/~{RTS3}/~{SCS0} (io), 40 P3_7/TA4IN/~{U}/TB1IN/~{CTS4}/~{RTS4} (io), 41 P3_6/TA4OUT/U/TXD4 (io), 42 P3_5/TA2IN/~{W}/RXD4 (io), 43 P3_4/TA2OUT/W/CLK4 (io), 44 P3_3/TA1IN/~{V} (io), 45 P3_2/TA1OUT/V (io), 46 P3_1/TA3OUT/UD0B/LIN0IN (io), 48 P3_0/TA0OUT/UD0A/LIN0OUT (io), 50 P2_7/AN2_7 (io), 51 P2_6/AN2_6 (io), 52 P2_5/AN2_5 (io), 53 P2_4/AN2_4 (io), 54 P2_3/AN2_3 (io), 55 P2_2/AN2_2 (io), 56 P2_1/AN2_1 (io), 57 P2_0/AN2_0 (io), 58 P1_7/~{INT5}/IIO0_7 (io), 59 P1_6/~{INT4}/IIO0_6 (io), 60 P1_5/~{INT3}/IIO0_5 (io), 61 P1_4/TB0IN/IIO0_4/AN_4 (io), 62 P1_3/~{SCS0}/IIO0_3/AN_3 (io), 63 P1_2/SSI0/IIO0_2/AN_2 (io), 64 P1_1/SSCK0/IIO0_1/AN_1 (io), 65 P1_0/SSO0/IIO0_0/AN_0 (io), 66 P0_7/AN0_7 (io), 67 P0_6/AN0_6 (io), 68 P0_5/AN0_5 (io), 69 P0_4/AN0_4 (io), 70 P0_3/AN0_3 (io), 71 P0_2/AN0_2 (io), 72 P0_1/AN0_1 (io), 73 P0_0/AN0_0 (io), 74 P9_7/TB2IN/RXD4/~{ADTRG} (io), 76 P9_6/TXD4/ANEX1 (io), 77 VREF (in), 79 P9_5/CLK4/ANEX0 (io), 80 P9_4/TB4IN/~{CTS4}/~{RTS4} (io)
part B pins: 11 VSS (power), 13 VCC (power), 47 VCC (power), 49 VSS (power), 75 AVSS (power), 78 AVCC/VCC (power)

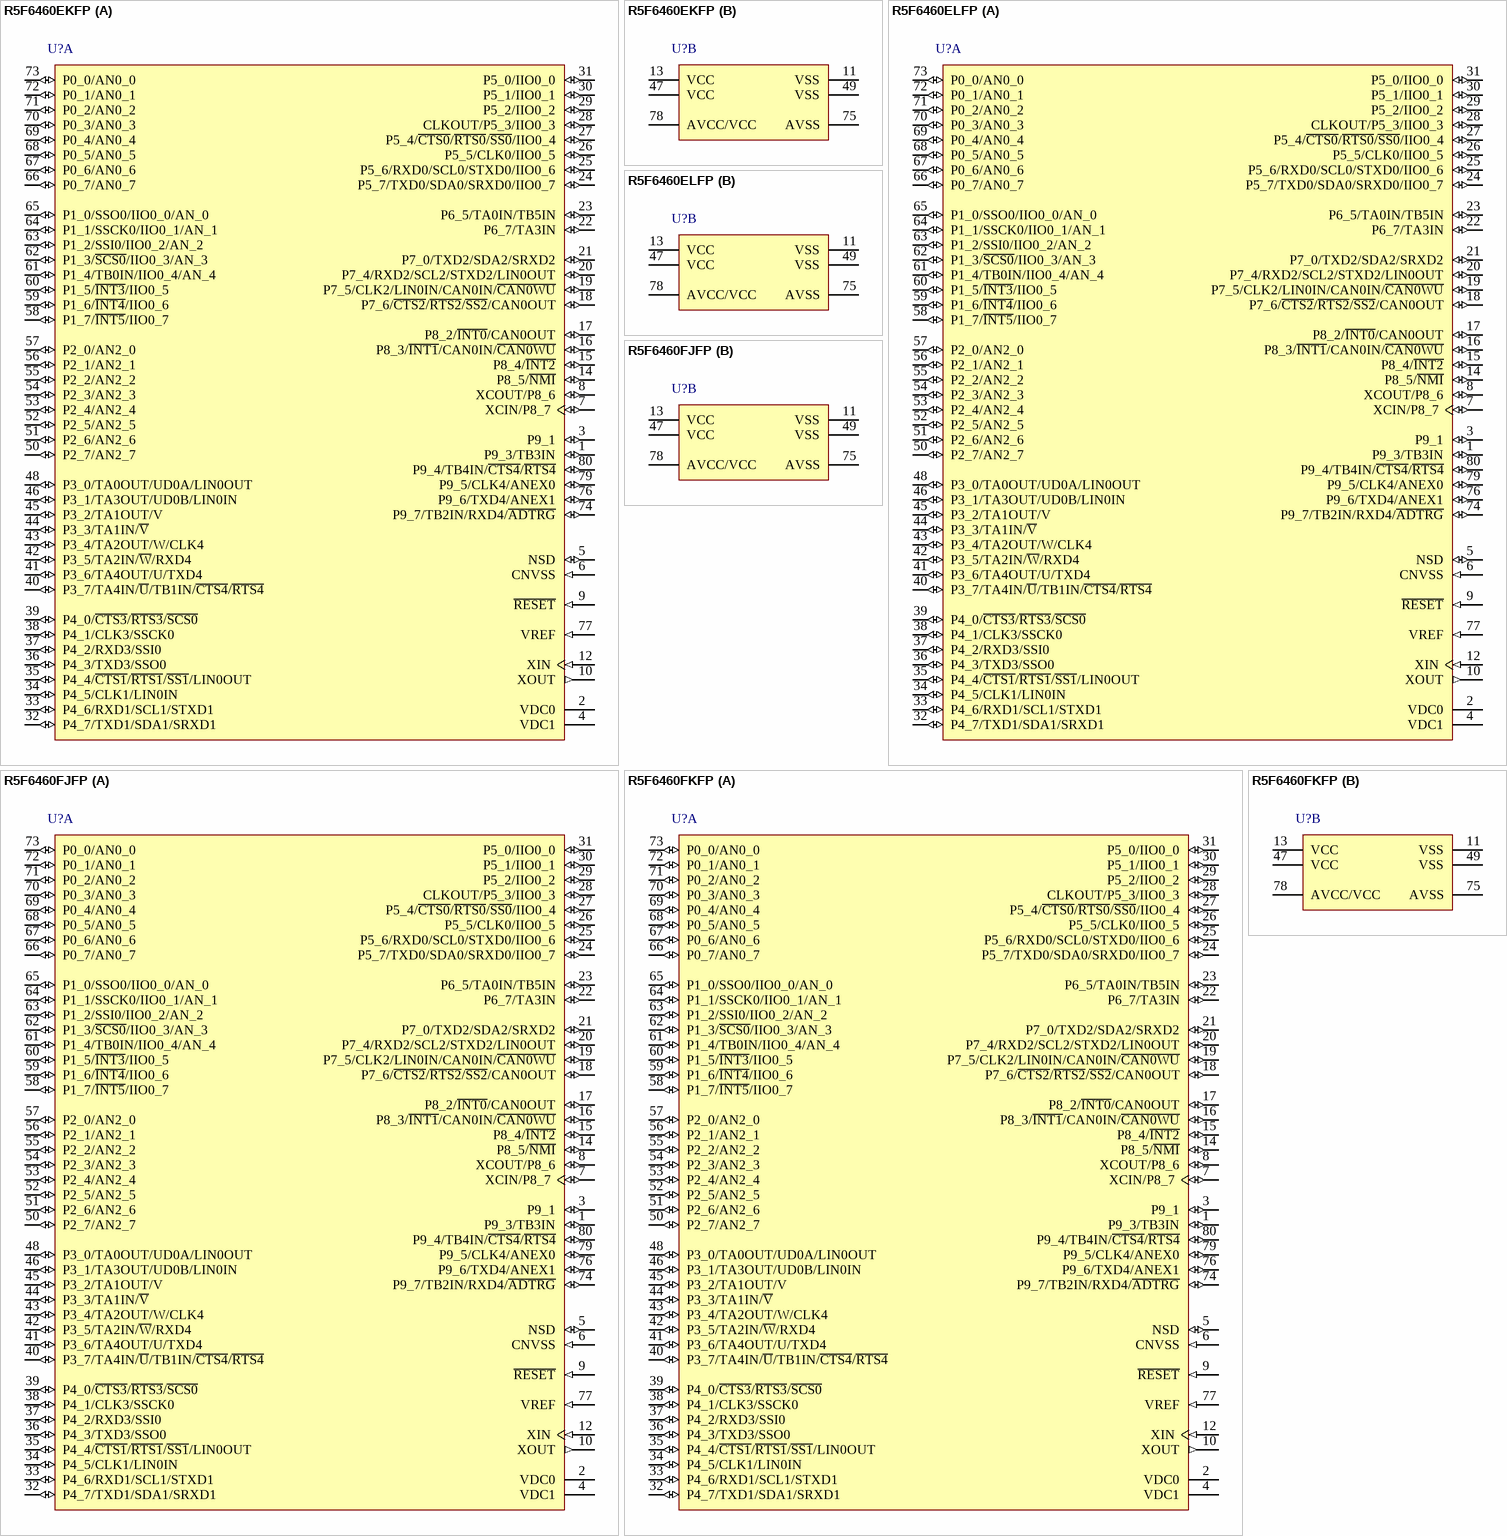
[diagram p35: symbols R5F6460EKFP to R5F6460FKFP]

## R5F6460EKFP
designator U?
Flash Memory R32C/100 Series, 160 Group MCU, 128K + 8K ROM, 12K RAM, 80-pin LQFP, Version K; Published: 28-Aug-2009; LatestRevisionDate: 26-Feb-2010; LatestRevisionNote: Updated to datasheet revision 1.01 Dec-2009.; DatasheetVersion: Rev.1.01, Dec-2009; PackageVersion: Sep-2005; PackageReference: PLQP0080KB-A; Publisher: Altium Limited; PackageDescription: 80-Pin Plastic Low Profile QFP, 12 x 12 x 1.4 mm Body, 0.5 mm Pitch; Code_JEITA: P-LQFP80-12x12-0.50; Code_IPC: SQFP50P1400X1400-80; ComponentLink1Description: Manufacturer Link; ComponentLink1URL: http://sg.renesas.com/fmwk.jsp?cnt=m16c_family_landing.jsp&fp=/products/mpumcu/m16c_family/; ComponentLink2Description: Datasheet; ComponentLink2URL: http://documentation.renesas.com/eng/products/mpumcu/rej03b0240_r32c160ds.pdf; ComponentLink3Description: Packaging Specification; ComponentLink3URL: http://sg.renesas.com/media/products/common_info/package/pdf/ic/code/plqp0080kb_a.pdf
footprint PLQP0080KB-A_N (Shrink QFP, 80-Leads, Body 12x12mm, Pitch 0.5mm, IPC Medium Density)
footprint PLQP0080KB-A_L (Shrink QFP, 80-Leads, Body 12x12mm, Pitch 0.5mm, IPC High Density)
footprint PLQP0080KB-A_M (Shrink QFP, 80-Leads, Body 12x12mm, Pitch 0.5mm, IPC Low Density)
part A pins: 1 P9_3/TB3IN (io), 2 VDC0, 3 P9_1 (io), 4 VDC1, 5 NSD (io), 6 CNVSS (in), 7 XCIN/P8_7 (io), 8 XCOUT/P8_6 (io), 9 ~{RESET} (in), 10 XOUT (out), 12 XIN (in), 14 P8_5/~{NMI} (io), 15 P8_4/~{INT2} (io), 16 P8_3/~{INT1}/CAN0IN/~{CAN0WU} (io), 17 P8_2/~{INT0}/CAN0OUT (io), 18 P7_6/~{CTS2}/~{RTS2}/~{SS2}/CAN0OUT (io), 19 P7_5/CLK2/LIN0IN/CAN0IN/~{CAN0WU} (io), 20 P7_4/RXD2/SCL2/STXD2/LIN0OUT (io), 21 P7_0/TXD2/SDA2/SRXD2 (io), 22 P6_7/TA3IN (io), 23 P6_5/TA0IN/TB5IN (io), 24 P5_7/TXD0/SDA0/SRXD0/IIO0_7 (io), 25 P5_6/RXD0/SCL0/STXD0/IIO0_6 (io), 26 P5_5/CLK0/IIO0_5 (io), 27 P5_4/~{CTS0}/~{RTS0}/~{SS0}/IIO0_4 (io), 28 CLKOUT/P5_3/IIO0_3 (io), 29 P5_2/IIO0_2 (io), 30 P5_1/IIO0_1 (io), 31 P5_0/IIO0_0 (io), 32 P4_7/TXD1/SDA1/SRXD1 (io), 33 P4_6/RXD1/SCL1/STXD1 (io), 34 P4_5/CLK1/LIN0IN (io), 35 P4_4/~{CTS1}/~{RTS1}/~{SS1}/LIN0OUT (io), 36 P4_3/TXD3/SSO0 (io), 37 P4_2/RXD3/SSI0 (io), 38 P4_1/CLK3/SSCK0 (io), 39 P4_0/~{CTS3}/~{RTS3}/~{SCS0} (io), 40 P3_7/TA4IN/~{U}/TB1IN/~{CTS4}/~{RTS4} (io), 41 P3_6/TA4OUT/U/TXD4 (io), 42 P3_5/TA2IN/~{W}/RXD4 (io), 43 P3_4/TA2OUT/W/CLK4 (io), 44 P3_3/TA1IN/~{V} (io), 45 P3_2/TA1OUT/V (io), 46 P3_1/TA3OUT/UD0B/LIN0IN (io), 48 P3_0/TA0OUT/UD0A/LIN0OUT (io), 50 P2_7/AN2_7 (io), 51 P2_6/AN2_6 (io), 52 P2_5/AN2_5 (io), 53 P2_4/AN2_4 (io), 54 P2_3/AN2_3 (io), 55 P2_2/AN2_2 (io), 56 P2_1/AN2_1 (io), 57 P2_0/AN2_0 (io), 58 P1_7/~{INT5}/IIO0_7 (io), 59 P1_6/~{INT4}/IIO0_6 (io), 60 P1_5/~{INT3}/IIO0_5 (io), 61 P1_4/TB0IN/IIO0_4/AN_4 (io), 62 P1_3/~{SCS0}/IIO0_3/AN_3 (io), 63 P1_2/SSI0/IIO0_2/AN_2 (io), 64 P1_1/SSCK0/IIO0_1/AN_1 (io), 65 P1_0/SSO0/IIO0_0/AN_0 (io), 66 P0_7/AN0_7 (io), 67 P0_6/AN0_6 (io), 68 P0_5/AN0_5 (io), 69 P0_4/AN0_4 (io), 70 P0_3/AN0_3 (io), 71 P0_2/AN0_2 (io), 72 P0_1/AN0_1 (io), 73 P0_0/AN0_0 (io), 74 P9_7/TB2IN/RXD4/~{ADTRG} (io), 76 P9_6/TXD4/ANEX1 (io), 77 VREF (in), 79 P9_5/CLK4/ANEX0 (io), 80 P9_4/TB4IN/~{CTS4}/~{RTS4} (io)
part B pins: 11 VSS (power), 13 VCC (power), 47 VCC (power), 49 VSS (power), 75 AVSS (power), 78 AVCC/VCC (power)

## R5F6460ELFP
designator U?
Flash Memory R32C/100 Series, 160 Group MCU, 128K + 8K ROM, 12K RAM, 80-pin LQFP, Version L; Published: 28-Aug-2009; LatestRevisionDate: 26-Feb-2010; LatestRevisionNote: Updated to datasheet revision 1.01 Dec-2009.; DatasheetVersion: Rev.1.01, Dec-2009; PackageVersion: Sep-2005; PackageReference: PLQP0080KB-A; Publisher: Altium Limited; PackageDescription: 80-Pin Plastic Low Profile QFP, 12 x 12 x 1.4 mm Body, 0.5 mm Pitch; Code_JEITA: P-LQFP80-12x12-0.50; Code_IPC: SQFP50P1400X1400-80; ComponentLink1Description: Manufacturer Link; ComponentLink1URL: http://sg.renesas.com/fmwk.jsp?cnt=m16c_family_landing.jsp&fp=/products/mpumcu/m16c_family/; ComponentLink2Description: Datasheet; ComponentLink2URL: http://documentation.renesas.com/eng/products/mpumcu/rej03b0240_r32c160ds.pdf; ComponentLink3Description: Packaging Specification; ComponentLink3URL: http://sg.renesas.com/media/products/common_info/package/pdf/ic/code/plqp0080kb_a.pdf
footprint PLQP0080KB-A_N (Shrink QFP, 80-Leads, Body 12x12mm, Pitch 0.5mm, IPC Medium Density)
footprint PLQP0080KB-A_L (Shrink QFP, 80-Leads, Body 12x12mm, Pitch 0.5mm, IPC High Density)
footprint PLQP0080KB-A_M (Shrink QFP, 80-Leads, Body 12x12mm, Pitch 0.5mm, IPC Low Density)
part A pins: 1 P9_3/TB3IN (io), 2 VDC0, 3 P9_1 (io), 4 VDC1, 5 NSD (io), 6 CNVSS (in), 7 XCIN/P8_7 (io), 8 XCOUT/P8_6 (io), 9 ~{RESET} (in), 10 XOUT (out), 12 XIN (in), 14 P8_5/~{NMI} (io), 15 P8_4/~{INT2} (io), 16 P8_3/~{INT1}/CAN0IN/~{CAN0WU} (io), 17 P8_2/~{INT0}/CAN0OUT (io), 18 P7_6/~{CTS2}/~{RTS2}/~{SS2}/CAN0OUT (io), 19 P7_5/CLK2/LIN0IN/CAN0IN/~{CAN0WU} (io), 20 P7_4/RXD2/SCL2/STXD2/LIN0OUT (io), 21 P7_0/TXD2/SDA2/SRXD2 (io), 22 P6_7/TA3IN (io), 23 P6_5/TA0IN/TB5IN (io), 24 P5_7/TXD0/SDA0/SRXD0/IIO0_7 (io), 25 P5_6/RXD0/SCL0/STXD0/IIO0_6 (io), 26 P5_5/CLK0/IIO0_5 (io), 27 P5_4/~{CTS0}/~{RTS0}/~{SS0}/IIO0_4 (io), 28 CLKOUT/P5_3/IIO0_3 (io), 29 P5_2/IIO0_2 (io), 30 P5_1/IIO0_1 (io), 31 P5_0/IIO0_0 (io), 32 P4_7/TXD1/SDA1/SRXD1 (io), 33 P4_6/RXD1/SCL1/STXD1 (io), 34 P4_5/CLK1/LIN0IN (io), 35 P4_4/~{CTS1}/~{RTS1}/~{SS1}/LIN0OUT (io), 36 P4_3/TXD3/SSO0 (io), 37 P4_2/RXD3/SSI0 (io), 38 P4_1/CLK3/SSCK0 (io), 39 P4_0/~{CTS3}/~{RTS3}/~{SCS0} (io), 40 P3_7/TA4IN/~{U}/TB1IN/~{CTS4}/~{RTS4} (io), 41 P3_6/TA4OUT/U/TXD4 (io), 42 P3_5/TA2IN/~{W}/RXD4 (io), 43 P3_4/TA2OUT/W/CLK4 (io), 44 P3_3/TA1IN/~{V} (io), 45 P3_2/TA1OUT/V (io), 46 P3_1/TA3OUT/UD0B/LIN0IN (io), 48 P3_0/TA0OUT/UD0A/LIN0OUT (io), 50 P2_7/AN2_7 (io), 51 P2_6/AN2_6 (io), 52 P2_5/AN2_5 (io), 53 P2_4/AN2_4 (io), 54 P2_3/AN2_3 (io), 55 P2_2/AN2_2 (io), 56 P2_1/AN2_1 (io), 57 P2_0/AN2_0 (io), 58 P1_7/~{INT5}/IIO0_7 (io), 59 P1_6/~{INT4}/IIO0_6 (io), 60 P1_5/~{INT3}/IIO0_5 (io), 61 P1_4/TB0IN/IIO0_4/AN_4 (io), 62 P1_3/~{SCS0}/IIO0_3/AN_3 (io), 63 P1_2/SSI0/IIO0_2/AN_2 (io), 64 P1_1/SSCK0/IIO0_1/AN_1 (io), 65 P1_0/SSO0/IIO0_0/AN_0 (io), 66 P0_7/AN0_7 (io), 67 P0_6/AN0_6 (io), 68 P0_5/AN0_5 (io), 69 P0_4/AN0_4 (io), 70 P0_3/AN0_3 (io), 71 P0_2/AN0_2 (io), 72 P0_1/AN0_1 (io), 73 P0_0/AN0_0 (io), 74 P9_7/TB2IN/RXD4/~{ADTRG} (io), 76 P9_6/TXD4/ANEX1 (io), 77 VREF (in), 79 P9_5/CLK4/ANEX0 (io), 80 P9_4/TB4IN/~{CTS4}/~{RTS4} (io)
part B pins: 11 VSS (power), 13 VCC (power), 47 VCC (power), 49 VSS (power), 75 AVSS (power), 78 AVCC/VCC (power)

## R5F6460FJFP
designator U?
Flash Memory R32C/100 Series, 160 Group MCU, 256K + 8K ROM, 20K RAM, 80-pin LQFP, Version J; Published: 28-Aug-2009; LatestRevisionDate: 26-Feb-2010; LatestRevisionNote: Updated to datasheet revision 1.01 Dec-2009.; DatasheetVersion: Rev.1.01, Dec-2009; PackageVersion: Sep-2005; PackageReference: PLQP0080KB-A; Publisher: Altium Limited; PackageDescription: 80-Pin Plastic Low Profile QFP, 12 x 12 x 1.4 mm Body, 0.5 mm Pitch; Code_JEITA: P-LQFP80-12x12-0.50; Code_IPC: SQFP50P1400X1400-80; ComponentLink1Description: Manufacturer Link; ComponentLink1URL: http://sg.renesas.com/fmwk.jsp?cnt=m16c_family_landing.jsp&fp=/products/mpumcu/m16c_family/; ComponentLink2Description: Datasheet; ComponentLink2URL: http://documentation.renesas.com/eng/products/mpumcu/rej03b0240_r32c160ds.pdf; ComponentLink3Description: Packaging Specification; ComponentLink3URL: http://sg.renesas.com/media/products/common_info/package/pdf/ic/code/plqp0080kb_a.pdf
footprint PLQP0080KB-A_N (Shrink QFP, 80-Leads, Body 12x12mm, Pitch 0.5mm, IPC Medium Density)
footprint PLQP0080KB-A_L (Shrink QFP, 80-Leads, Body 12x12mm, Pitch 0.5mm, IPC High Density)
footprint PLQP0080KB-A_M (Shrink QFP, 80-Leads, Body 12x12mm, Pitch 0.5mm, IPC Low Density)
part A pins: 1 P9_3/TB3IN (io), 2 VDC0, 3 P9_1 (io), 4 VDC1, 5 NSD (io), 6 CNVSS (in), 7 XCIN/P8_7 (io), 8 XCOUT/P8_6 (io), 9 ~{RESET} (in), 10 XOUT (out), 12 XIN (in), 14 P8_5/~{NMI} (io), 15 P8_4/~{INT2} (io), 16 P8_3/~{INT1}/CAN0IN/~{CAN0WU} (io), 17 P8_2/~{INT0}/CAN0OUT (io), 18 P7_6/~{CTS2}/~{RTS2}/~{SS2}/CAN0OUT (io), 19 P7_5/CLK2/LIN0IN/CAN0IN/~{CAN0WU} (io), 20 P7_4/RXD2/SCL2/STXD2/LIN0OUT (io), 21 P7_0/TXD2/SDA2/SRXD2 (io), 22 P6_7/TA3IN (io), 23 P6_5/TA0IN/TB5IN (io), 24 P5_7/TXD0/SDA0/SRXD0/IIO0_7 (io), 25 P5_6/RXD0/SCL0/STXD0/IIO0_6 (io), 26 P5_5/CLK0/IIO0_5 (io), 27 P5_4/~{CTS0}/~{RTS0}/~{SS0}/IIO0_4 (io), 28 CLKOUT/P5_3/IIO0_3 (io), 29 P5_2/IIO0_2 (io), 30 P5_1/IIO0_1 (io), 31 P5_0/IIO0_0 (io), 32 P4_7/TXD1/SDA1/SRXD1 (io), 33 P4_6/RXD1/SCL1/STXD1 (io), 34 P4_5/CLK1/LIN0IN (io), 35 P4_4/~{CTS1}/~{RTS1}/~{SS1}/LIN0OUT (io), 36 P4_3/TXD3/SSO0 (io), 37 P4_2/RXD3/SSI0 (io), 38 P4_1/CLK3/SSCK0 (io), 39 P4_0/~{CTS3}/~{RTS3}/~{SCS0} (io), 40 P3_7/TA4IN/~{U}/TB1IN/~{CTS4}/~{RTS4} (io), 41 P3_6/TA4OUT/U/TXD4 (io), 42 P3_5/TA2IN/~{W}/RXD4 (io), 43 P3_4/TA2OUT/W/CLK4 (io), 44 P3_3/TA1IN/~{V} (io), 45 P3_2/TA1OUT/V (io), 46 P3_1/TA3OUT/UD0B/LIN0IN (io), 48 P3_0/TA0OUT/UD0A/LIN0OUT (io), 50 P2_7/AN2_7 (io), 51 P2_6/AN2_6 (io), 52 P2_5/AN2_5 (io), 53 P2_4/AN2_4 (io), 54 P2_3/AN2_3 (io), 55 P2_2/AN2_2 (io), 56 P2_1/AN2_1 (io), 57 P2_0/AN2_0 (io), 58 P1_7/~{INT5}/IIO0_7 (io), 59 P1_6/~{INT4}/IIO0_6 (io), 60 P1_5/~{INT3}/IIO0_5 (io), 61 P1_4/TB0IN/IIO0_4/AN_4 (io), 62 P1_3/~{SCS0}/IIO0_3/AN_3 (io), 63 P1_2/SSI0/IIO0_2/AN_2 (io), 64 P1_1/SSCK0/IIO0_1/AN_1 (io), 65 P1_0/SSO0/IIO0_0/AN_0 (io), 66 P0_7/AN0_7 (io), 67 P0_6/AN0_6 (io), 68 P0_5/AN0_5 (io), 69 P0_4/AN0_4 (io), 70 P0_3/AN0_3 (io), 71 P0_2/AN0_2 (io), 72 P0_1/AN0_1 (io), 73 P0_0/AN0_0 (io), 74 P9_7/TB2IN/RXD4/~{ADTRG} (io), 76 P9_6/TXD4/ANEX1 (io), 77 VREF (in), 79 P9_5/CLK4/ANEX0 (io), 80 P9_4/TB4IN/~{CTS4}/~{RTS4} (io)
part B pins: 11 VSS (power), 13 VCC (power), 47 VCC (power), 49 VSS (power), 75 AVSS (power), 78 AVCC/VCC (power)

## R5F6460FKFP
designator U?
Flash Memory R32C/100 Series, 160 Group MCU, 256K + 8K ROM, 20K RAM, 80-pin LQFP, Version K; Published: 28-Aug-2009; LatestRevisionDate: 26-Feb-2010; LatestRevisionNote: Updated to datasheet revision 1.01 Dec-2009.; DatasheetVersion: Rev.1.01, Dec-2009; PackageVersion: Sep-2005; PackageReference: PLQP0080KB-A; Publisher: Altium Limited; PackageDescription: 80-Pin Plastic Low Profile QFP, 12 x 12 x 1.4 mm Body, 0.5 mm Pitch; Code_JEITA: P-LQFP80-12x12-0.50; Code_IPC: SQFP50P1400X1400-80; ComponentLink1Description: Manufacturer Link; ComponentLink1URL: http://sg.renesas.com/fmwk.jsp?cnt=m16c_family_landing.jsp&fp=/products/mpumcu/m16c_family/; ComponentLink2Description: Datasheet; ComponentLink2URL: http://documentation.renesas.com/eng/products/mpumcu/rej03b0240_r32c160ds.pdf; ComponentLink3Description: Packaging Specification; ComponentLink3URL: http://sg.renesas.com/media/products/common_info/package/pdf/ic/code/plqp0080kb_a.pdf
footprint PLQP0080KB-A_N (Shrink QFP, 80-Leads, Body 12x12mm, Pitch 0.5mm, IPC Medium Density)
footprint PLQP0080KB-A_L (Shrink QFP, 80-Leads, Body 12x12mm, Pitch 0.5mm, IPC High Density)
footprint PLQP0080KB-A_M (Shrink QFP, 80-Leads, Body 12x12mm, Pitch 0.5mm, IPC Low Density)
part A pins: 1 P9_3/TB3IN (io), 2 VDC0, 3 P9_1 (io), 4 VDC1, 5 NSD (io), 6 CNVSS (in), 7 XCIN/P8_7 (io), 8 XCOUT/P8_6 (io), 9 ~{RESET} (in), 10 XOUT (out), 12 XIN (in), 14 P8_5/~{NMI} (io), 15 P8_4/~{INT2} (io), 16 P8_3/~{INT1}/CAN0IN/~{CAN0WU} (io), 17 P8_2/~{INT0}/CAN0OUT (io), 18 P7_6/~{CTS2}/~{RTS2}/~{SS2}/CAN0OUT (io), 19 P7_5/CLK2/LIN0IN/CAN0IN/~{CAN0WU} (io), 20 P7_4/RXD2/SCL2/STXD2/LIN0OUT (io), 21 P7_0/TXD2/SDA2/SRXD2 (io), 22 P6_7/TA3IN (io), 23 P6_5/TA0IN/TB5IN (io), 24 P5_7/TXD0/SDA0/SRXD0/IIO0_7 (io), 25 P5_6/RXD0/SCL0/STXD0/IIO0_6 (io), 26 P5_5/CLK0/IIO0_5 (io), 27 P5_4/~{CTS0}/~{RTS0}/~{SS0}/IIO0_4 (io), 28 CLKOUT/P5_3/IIO0_3 (io), 29 P5_2/IIO0_2 (io), 30 P5_1/IIO0_1 (io), 31 P5_0/IIO0_0 (io), 32 P4_7/TXD1/SDA1/SRXD1 (io), 33 P4_6/RXD1/SCL1/STXD1 (io), 34 P4_5/CLK1/LIN0IN (io), 35 P4_4/~{CTS1}/~{RTS1}/~{SS1}/LIN0OUT (io), 36 P4_3/TXD3/SSO0 (io), 37 P4_2/RXD3/SSI0 (io), 38 P4_1/CLK3/SSCK0 (io), 39 P4_0/~{CTS3}/~{RTS3}/~{SCS0} (io), 40 P3_7/TA4IN/~{U}/TB1IN/~{CTS4}/~{RTS4} (io), 41 P3_6/TA4OUT/U/TXD4 (io), 42 P3_5/TA2IN/~{W}/RXD4 (io), 43 P3_4/TA2OUT/W/CLK4 (io), 44 P3_3/TA1IN/~{V} (io), 45 P3_2/TA1OUT/V (io), 46 P3_1/TA3OUT/UD0B/LIN0IN (io), 48 P3_0/TA0OUT/UD0A/LIN0OUT (io), 50 P2_7/AN2_7 (io), 51 P2_6/AN2_6 (io), 52 P2_5/AN2_5 (io), 53 P2_4/AN2_4 (io), 54 P2_3/AN2_3 (io), 55 P2_2/AN2_2 (io), 56 P2_1/AN2_1 (io), 57 P2_0/AN2_0 (io), 58 P1_7/~{INT5}/IIO0_7 (io), 59 P1_6/~{INT4}/IIO0_6 (io), 60 P1_5/~{INT3}/IIO0_5 (io), 61 P1_4/TB0IN/IIO0_4/AN_4 (io), 62 P1_3/~{SCS0}/IIO0_3/AN_3 (io), 63 P1_2/SSI0/IIO0_2/AN_2 (io), 64 P1_1/SSCK0/IIO0_1/AN_1 (io), 65 P1_0/SSO0/IIO0_0/AN_0 (io), 66 P0_7/AN0_7 (io), 67 P0_6/AN0_6 (io), 68 P0_5/AN0_5 (io), 69 P0_4/AN0_4 (io), 70 P0_3/AN0_3 (io), 71 P0_2/AN0_2 (io), 72 P0_1/AN0_1 (io), 73 P0_0/AN0_0 (io), 74 P9_7/TB2IN/RXD4/~{ADTRG} (io), 76 P9_6/TXD4/ANEX1 (io), 77 VREF (in), 79 P9_5/CLK4/ANEX0 (io), 80 P9_4/TB4IN/~{CTS4}/~{RTS4} (io)
part B pins: 11 VSS (power), 13 VCC (power), 47 VCC (power), 49 VSS (power), 75 AVSS (power), 78 AVCC/VCC (power)

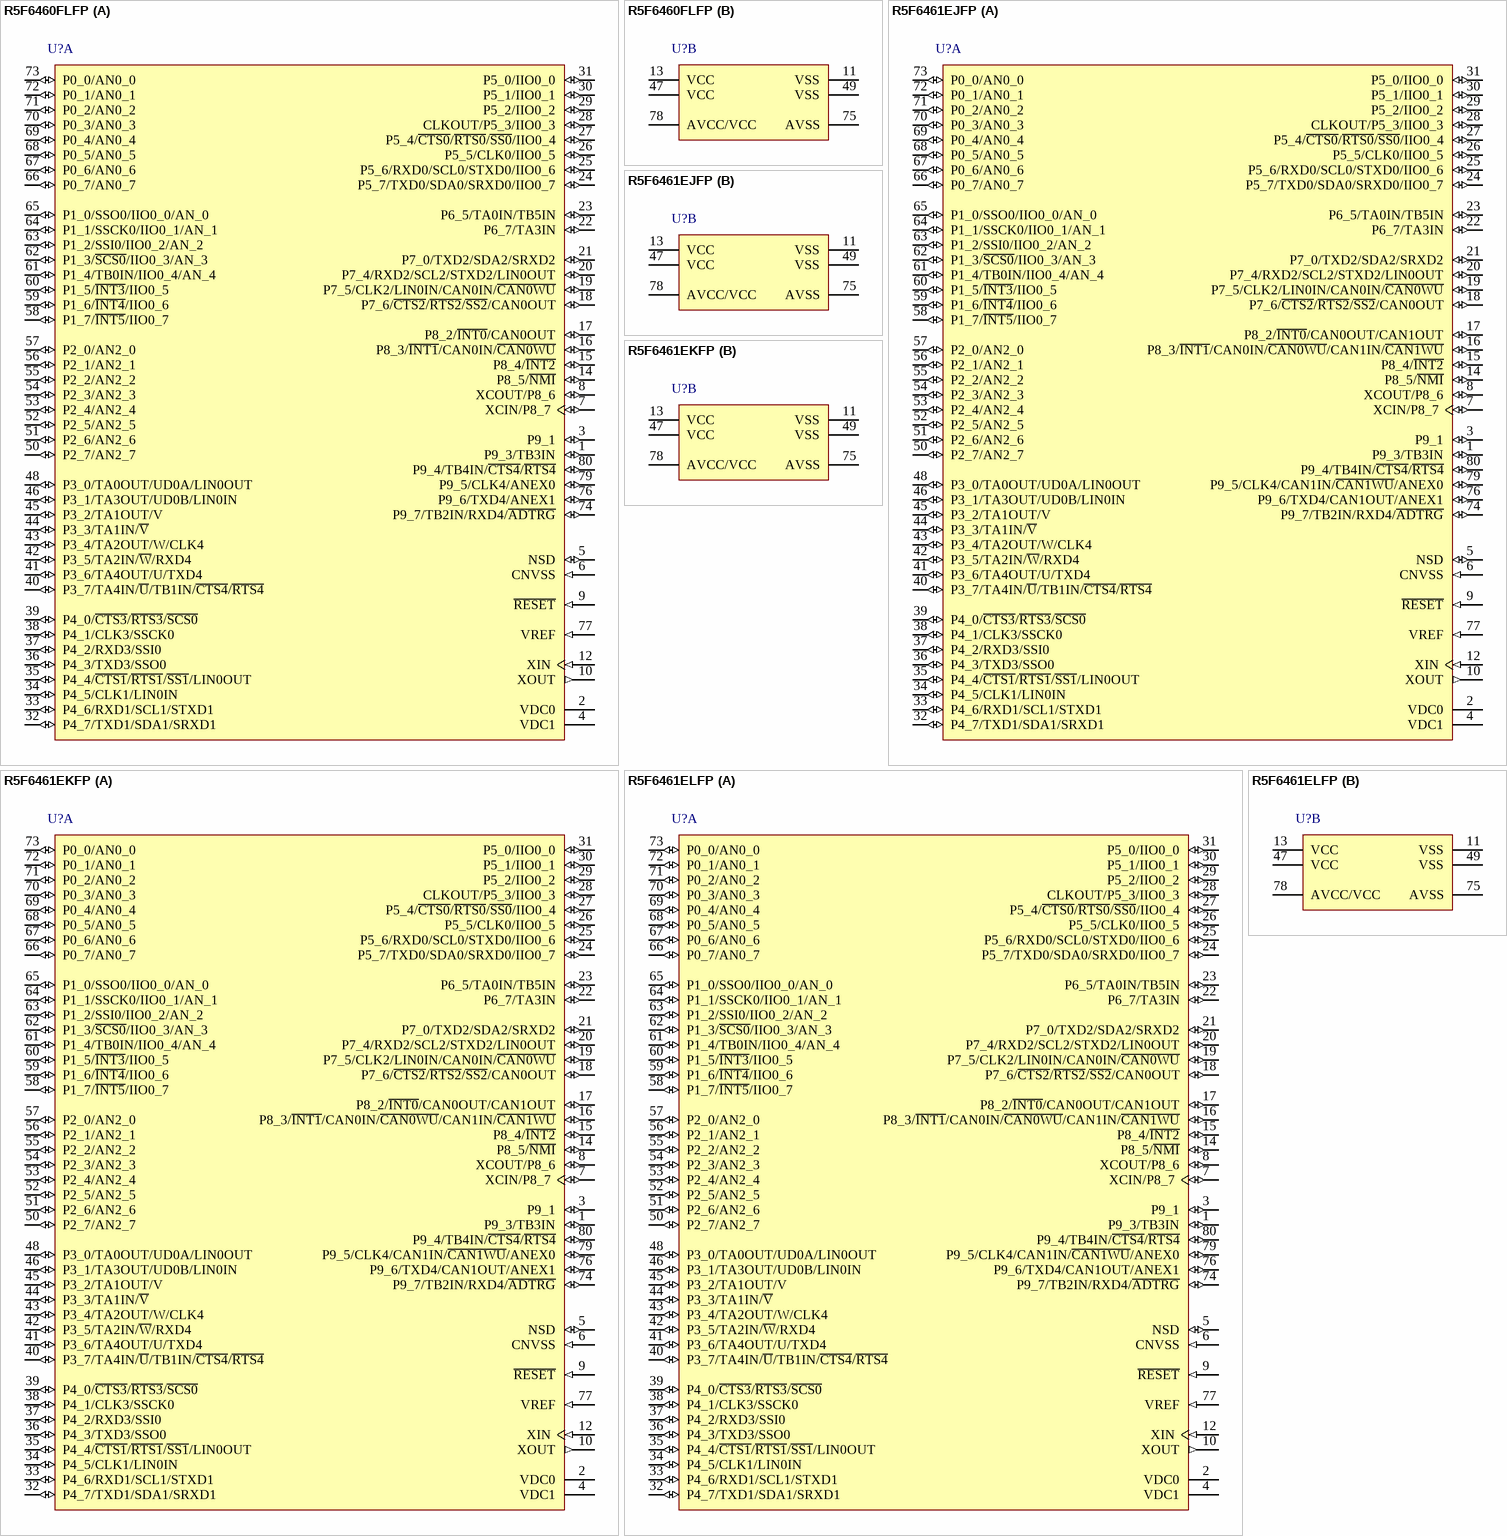
[diagram p36: symbols R5F6460FLFP to R5F6461ELFP]

## R5F6460FLFP
designator U?
Flash Memory R32C/100 Series, 160 Group MCU, 256K + 8K ROM, 20K RAM, 80-pin LQFP, Version L; Published: 28-Aug-2009; LatestRevisionDate: 26-Feb-2010; LatestRevisionNote: Updated to datasheet revision 1.01 Dec-2009.; DatasheetVersion: Rev.1.01, Dec-2009; PackageVersion: Sep-2005; PackageReference: PLQP0080KB-A; Publisher: Altium Limited; PackageDescription: 80-Pin Plastic Low Profile QFP, 12 x 12 x 1.4 mm Body, 0.5 mm Pitch; Code_JEITA: P-LQFP80-12x12-0.50; Code_IPC: SQFP50P1400X1400-80; ComponentLink1Description: Manufacturer Link; ComponentLink1URL: http://sg.renesas.com/fmwk.jsp?cnt=m16c_family_landing.jsp&fp=/products/mpumcu/m16c_family/; ComponentLink2Description: Datasheet; ComponentLink2URL: http://documentation.renesas.com/eng/products/mpumcu/rej03b0240_r32c160ds.pdf; ComponentLink3Description: Packaging Specification; ComponentLink3URL: http://sg.renesas.com/media/products/common_info/package/pdf/ic/code/plqp0080kb_a.pdf
footprint PLQP0080KB-A_N (Shrink QFP, 80-Leads, Body 12x12mm, Pitch 0.5mm, IPC Medium Density)
footprint PLQP0080KB-A_L (Shrink QFP, 80-Leads, Body 12x12mm, Pitch 0.5mm, IPC High Density)
footprint PLQP0080KB-A_M (Shrink QFP, 80-Leads, Body 12x12mm, Pitch 0.5mm, IPC Low Density)
part A pins: 1 P9_3/TB3IN (io), 2 VDC0, 3 P9_1 (io), 4 VDC1, 5 NSD (io), 6 CNVSS (in), 7 XCIN/P8_7 (io), 8 XCOUT/P8_6 (io), 9 ~{RESET} (in), 10 XOUT (out), 12 XIN (in), 14 P8_5/~{NMI} (io), 15 P8_4/~{INT2} (io), 16 P8_3/~{INT1}/CAN0IN/~{CAN0WU} (io), 17 P8_2/~{INT0}/CAN0OUT (io), 18 P7_6/~{CTS2}/~{RTS2}/~{SS2}/CAN0OUT (io), 19 P7_5/CLK2/LIN0IN/CAN0IN/~{CAN0WU} (io), 20 P7_4/RXD2/SCL2/STXD2/LIN0OUT (io), 21 P7_0/TXD2/SDA2/SRXD2 (io), 22 P6_7/TA3IN (io), 23 P6_5/TA0IN/TB5IN (io), 24 P5_7/TXD0/SDA0/SRXD0/IIO0_7 (io), 25 P5_6/RXD0/SCL0/STXD0/IIO0_6 (io), 26 P5_5/CLK0/IIO0_5 (io), 27 P5_4/~{CTS0}/~{RTS0}/~{SS0}/IIO0_4 (io), 28 CLKOUT/P5_3/IIO0_3 (io), 29 P5_2/IIO0_2 (io), 30 P5_1/IIO0_1 (io), 31 P5_0/IIO0_0 (io), 32 P4_7/TXD1/SDA1/SRXD1 (io), 33 P4_6/RXD1/SCL1/STXD1 (io), 34 P4_5/CLK1/LIN0IN (io), 35 P4_4/~{CTS1}/~{RTS1}/~{SS1}/LIN0OUT (io), 36 P4_3/TXD3/SSO0 (io), 37 P4_2/RXD3/SSI0 (io), 38 P4_1/CLK3/SSCK0 (io), 39 P4_0/~{CTS3}/~{RTS3}/~{SCS0} (io), 40 P3_7/TA4IN/~{U}/TB1IN/~{CTS4}/~{RTS4} (io), 41 P3_6/TA4OUT/U/TXD4 (io), 42 P3_5/TA2IN/~{W}/RXD4 (io), 43 P3_4/TA2OUT/W/CLK4 (io), 44 P3_3/TA1IN/~{V} (io), 45 P3_2/TA1OUT/V (io), 46 P3_1/TA3OUT/UD0B/LIN0IN (io), 48 P3_0/TA0OUT/UD0A/LIN0OUT (io), 50 P2_7/AN2_7 (io), 51 P2_6/AN2_6 (io), 52 P2_5/AN2_5 (io), 53 P2_4/AN2_4 (io), 54 P2_3/AN2_3 (io), 55 P2_2/AN2_2 (io), 56 P2_1/AN2_1 (io), 57 P2_0/AN2_0 (io), 58 P1_7/~{INT5}/IIO0_7 (io), 59 P1_6/~{INT4}/IIO0_6 (io), 60 P1_5/~{INT3}/IIO0_5 (io), 61 P1_4/TB0IN/IIO0_4/AN_4 (io), 62 P1_3/~{SCS0}/IIO0_3/AN_3 (io), 63 P1_2/SSI0/IIO0_2/AN_2 (io), 64 P1_1/SSCK0/IIO0_1/AN_1 (io), 65 P1_0/SSO0/IIO0_0/AN_0 (io), 66 P0_7/AN0_7 (io), 67 P0_6/AN0_6 (io), 68 P0_5/AN0_5 (io), 69 P0_4/AN0_4 (io), 70 P0_3/AN0_3 (io), 71 P0_2/AN0_2 (io), 72 P0_1/AN0_1 (io), 73 P0_0/AN0_0 (io), 74 P9_7/TB2IN/RXD4/~{ADTRG} (io), 76 P9_6/TXD4/ANEX1 (io), 77 VREF (in), 79 P9_5/CLK4/ANEX0 (io), 80 P9_4/TB4IN/~{CTS4}/~{RTS4} (io)
part B pins: 11 VSS (power), 13 VCC (power), 47 VCC (power), 49 VSS (power), 75 AVSS (power), 78 AVCC/VCC (power)

## R5F6461EJFP
designator U?
Flash Memory R32C/100 Series, 161 Group MCU, 128K + 8K ROM, 12K RAM, 80-pin LQFP, Version J; Published: 28-Aug-2009; LatestRevisionDate: 26-Feb-2010; LatestRevisionNote: Updated to datasheet revision 1.01 Dec-2009.; DatasheetVersion: Rev.1.01, Dec-2009; PackageVersion: Sep-2005; PackageReference: PLQP0080KB-A; Publisher: Altium Limited; PackageDescription: 80-Pin Plastic Low Profile QFP, 12 x 12 x 1.4 mm Body, 0.5 mm Pitch; Code_JEITA: P-LQFP80-12x12-0.50; Code_IPC: SQFP50P1400X1400-80; ComponentLink1Description: Manufacturer Link; ComponentLink1URL: http://sg.renesas.com/fmwk.jsp?cnt=m16c_family_landing.jsp&fp=/products/mpumcu/m16c_family/; ComponentLink2Description: Datasheet; ComponentLink2URL: http://documentation.renesas.com/eng/products/mpumcu/rej03b0241_r32c161ds.pdf; ComponentLink3Description: Packaging Specification; ComponentLink3URL: http://sg.renesas.com/media/products/common_info/package/pdf/ic/code/plqp0080kb_a.pdf
footprint PLQP0080KB-A_N (Shrink QFP, 80-Leads, Body 12x12mm, Pitch 0.5mm, IPC Medium Density)
footprint PLQP0080KB-A_L (Shrink QFP, 80-Leads, Body 12x12mm, Pitch 0.5mm, IPC High Density)
footprint PLQP0080KB-A_M (Shrink QFP, 80-Leads, Body 12x12mm, Pitch 0.5mm, IPC Low Density)
part A pins: 1 P9_3/TB3IN (io), 2 VDC0, 3 P9_1 (io), 4 VDC1, 5 NSD (io), 6 CNVSS (in), 7 XCIN/P8_7 (io), 8 XCOUT/P8_6 (io), 9 ~{RESET} (in), 10 XOUT (out), 12 XIN (in), 14 P8_5/~{NMI} (io), 15 P8_4/~{INT2} (io), 16 P8_3/~{INT1}/CAN0IN/~{CAN0WU}/CAN1IN/~{CAN1WU} (io), 17 P8_2/~{INT0}/CAN0OUT/CAN1OUT (io), 18 P7_6/~{CTS2}/~{RTS2}/~{SS2}/CAN0OUT (io), 19 P7_5/CLK2/LIN0IN/CAN0IN/~{CAN0WU} (io), 20 P7_4/RXD2/SCL2/STXD2/LIN0OUT (io), 21 P7_0/TXD2/SDA2/SRXD2 (io), 22 P6_7/TA3IN (io), 23 P6_5/TA0IN/TB5IN (io), 24 P5_7/TXD0/SDA0/SRXD0/IIO0_7 (io), 25 P5_6/RXD0/SCL0/STXD0/IIO0_6 (io), 26 P5_5/CLK0/IIO0_5 (io), 27 P5_4/~{CTS0}/~{RTS0}/~{SS0}/IIO0_4 (io), 28 CLKOUT/P5_3/IIO0_3 (io), 29 P5_2/IIO0_2 (io), 30 P5_1/IIO0_1 (io), 31 P5_0/IIO0_0 (io), 32 P4_7/TXD1/SDA1/SRXD1 (io), 33 P4_6/RXD1/SCL1/STXD1 (io), 34 P4_5/CLK1/LIN0IN (io), 35 P4_4/~{CTS1}/~{RTS1}/~{SS1}/LIN0OUT (io), 36 P4_3/TXD3/SSO0 (io), 37 P4_2/RXD3/SSI0 (io), 38 P4_1/CLK3/SSCK0 (io), 39 P4_0/~{CTS3}/~{RTS3}/~{SCS0} (io), 40 P3_7/TA4IN/~{U}/TB1IN/~{CTS4}/~{RTS4} (io), 41 P3_6/TA4OUT/U/TXD4 (io), 42 P3_5/TA2IN/~{W}/RXD4 (io), 43 P3_4/TA2OUT/W/CLK4 (io), 44 P3_3/TA1IN/~{V} (io), 45 P3_2/TA1OUT/V (io), 46 P3_1/TA3OUT/UD0B/LIN0IN (io), 48 P3_0/TA0OUT/UD0A/LIN0OUT (io), 50 P2_7/AN2_7 (io), 51 P2_6/AN2_6 (io), 52 P2_5/AN2_5 (io), 53 P2_4/AN2_4 (io), 54 P2_3/AN2_3 (io), 55 P2_2/AN2_2 (io), 56 P2_1/AN2_1 (io), 57 P2_0/AN2_0 (io), 58 P1_7/~{INT5}/IIO0_7 (io), 59 P1_6/~{INT4}/IIO0_6 (io), 60 P1_5/~{INT3}/IIO0_5 (io), 61 P1_4/TB0IN/IIO0_4/AN_4 (io), 62 P1_3/~{SCS0}/IIO0_3/AN_3 (io), 63 P1_2/SSI0/IIO0_2/AN_2 (io), 64 P1_1/SSCK0/IIO0_1/AN_1 (io), 65 P1_0/SSO0/IIO0_0/AN_0 (io), 66 P0_7/AN0_7 (io), 67 P0_6/AN0_6 (io), 68 P0_5/AN0_5 (io), 69 P0_4/AN0_4 (io), 70 P0_3/AN0_3 (io), 71 P0_2/AN0_2 (io), 72 P0_1/AN0_1 (io), 73 P0_0/AN0_0 (io), 74 P9_7/TB2IN/RXD4/~{ADTRG} (io), 76 P9_6/TXD4/CAN1OUT/ANEX1 (io), 77 VREF (in), 79 P9_5/CLK4/CAN1IN/~{CAN1WU}/ANEX0 (io), 80 P9_4/TB4IN/~{CTS4}/~{RTS4} (io)
part B pins: 11 VSS (power), 13 VCC (power), 47 VCC (power), 49 VSS (power), 75 AVSS (power), 78 AVCC/VCC (power)

## R5F6461EKFP
designator U?
Flash Memory R32C/100 Series, 161 Group MCU, 128K + 8K ROM, 12K RAM, 80-pin LQFP, Version K; Published: 28-Aug-2009; LatestRevisionDate: 26-Feb-2010; LatestRevisionNote: Updated to datasheet revision 1.01 Dec-2009.; DatasheetVersion: Rev.1.01, Dec-2009; PackageVersion: Sep-2005; PackageReference: PLQP0080KB-A; Publisher: Altium Limited; PackageDescription: 80-Pin Plastic Low Profile QFP, 12 x 12 x 1.4 mm Body, 0.5 mm Pitch; Code_JEITA: P-LQFP80-12x12-0.50; Code_IPC: SQFP50P1400X1400-80; ComponentLink1Description: Manufacturer Link; ComponentLink1URL: http://sg.renesas.com/fmwk.jsp?cnt=m16c_family_landing.jsp&fp=/products/mpumcu/m16c_family/; ComponentLink2Description: Datasheet; ComponentLink2URL: http://documentation.renesas.com/eng/products/mpumcu/rej03b0241_r32c161ds.pdf; ComponentLink3Description: Packaging Specification; ComponentLink3URL: http://sg.renesas.com/media/products/common_info/package/pdf/ic/code/plqp0080kb_a.pdf
footprint PLQP0080KB-A_N (Shrink QFP, 80-Leads, Body 12x12mm, Pitch 0.5mm, IPC Medium Density)
footprint PLQP0080KB-A_L (Shrink QFP, 80-Leads, Body 12x12mm, Pitch 0.5mm, IPC High Density)
footprint PLQP0080KB-A_M (Shrink QFP, 80-Leads, Body 12x12mm, Pitch 0.5mm, IPC Low Density)
part A pins: 1 P9_3/TB3IN (io), 2 VDC0, 3 P9_1 (io), 4 VDC1, 5 NSD (io), 6 CNVSS (in), 7 XCIN/P8_7 (io), 8 XCOUT/P8_6 (io), 9 ~{RESET} (in), 10 XOUT (out), 12 XIN (in), 14 P8_5/~{NMI} (io), 15 P8_4/~{INT2} (io), 16 P8_3/~{INT1}/CAN0IN/~{CAN0WU}/CAN1IN/~{CAN1WU} (io), 17 P8_2/~{INT0}/CAN0OUT/CAN1OUT (io), 18 P7_6/~{CTS2}/~{RTS2}/~{SS2}/CAN0OUT (io), 19 P7_5/CLK2/LIN0IN/CAN0IN/~{CAN0WU} (io), 20 P7_4/RXD2/SCL2/STXD2/LIN0OUT (io), 21 P7_0/TXD2/SDA2/SRXD2 (io), 22 P6_7/TA3IN (io), 23 P6_5/TA0IN/TB5IN (io), 24 P5_7/TXD0/SDA0/SRXD0/IIO0_7 (io), 25 P5_6/RXD0/SCL0/STXD0/IIO0_6 (io), 26 P5_5/CLK0/IIO0_5 (io), 27 P5_4/~{CTS0}/~{RTS0}/~{SS0}/IIO0_4 (io), 28 CLKOUT/P5_3/IIO0_3 (io), 29 P5_2/IIO0_2 (io), 30 P5_1/IIO0_1 (io), 31 P5_0/IIO0_0 (io), 32 P4_7/TXD1/SDA1/SRXD1 (io), 33 P4_6/RXD1/SCL1/STXD1 (io), 34 P4_5/CLK1/LIN0IN (io), 35 P4_4/~{CTS1}/~{RTS1}/~{SS1}/LIN0OUT (io), 36 P4_3/TXD3/SSO0 (io), 37 P4_2/RXD3/SSI0 (io), 38 P4_1/CLK3/SSCK0 (io), 39 P4_0/~{CTS3}/~{RTS3}/~{SCS0} (io), 40 P3_7/TA4IN/~{U}/TB1IN/~{CTS4}/~{RTS4} (io), 41 P3_6/TA4OUT/U/TXD4 (io), 42 P3_5/TA2IN/~{W}/RXD4 (io), 43 P3_4/TA2OUT/W/CLK4 (io), 44 P3_3/TA1IN/~{V} (io), 45 P3_2/TA1OUT/V (io), 46 P3_1/TA3OUT/UD0B/LIN0IN (io), 48 P3_0/TA0OUT/UD0A/LIN0OUT (io), 50 P2_7/AN2_7 (io), 51 P2_6/AN2_6 (io), 52 P2_5/AN2_5 (io), 53 P2_4/AN2_4 (io), 54 P2_3/AN2_3 (io), 55 P2_2/AN2_2 (io), 56 P2_1/AN2_1 (io), 57 P2_0/AN2_0 (io), 58 P1_7/~{INT5}/IIO0_7 (io), 59 P1_6/~{INT4}/IIO0_6 (io), 60 P1_5/~{INT3}/IIO0_5 (io), 61 P1_4/TB0IN/IIO0_4/AN_4 (io), 62 P1_3/~{SCS0}/IIO0_3/AN_3 (io), 63 P1_2/SSI0/IIO0_2/AN_2 (io), 64 P1_1/SSCK0/IIO0_1/AN_1 (io), 65 P1_0/SSO0/IIO0_0/AN_0 (io), 66 P0_7/AN0_7 (io), 67 P0_6/AN0_6 (io), 68 P0_5/AN0_5 (io), 69 P0_4/AN0_4 (io), 70 P0_3/AN0_3 (io), 71 P0_2/AN0_2 (io), 72 P0_1/AN0_1 (io), 73 P0_0/AN0_0 (io), 74 P9_7/TB2IN/RXD4/~{ADTRG} (io), 76 P9_6/TXD4/CAN1OUT/ANEX1 (io), 77 VREF (in), 79 P9_5/CLK4/CAN1IN/~{CAN1WU}/ANEX0 (io), 80 P9_4/TB4IN/~{CTS4}/~{RTS4} (io)
part B pins: 11 VSS (power), 13 VCC (power), 47 VCC (power), 49 VSS (power), 75 AVSS (power), 78 AVCC/VCC (power)

## R5F6461ELFP
designator U?
Flash Memory R32C/100 Series, 161 Group MCU, 128K + 8K ROM, 12K RAM, 80-pin LQFP, Version L; Published: 28-Aug-2009; LatestRevisionDate: 26-Feb-2010; LatestRevisionNote: Updated to datasheet revision 1.01 Dec-2009.; DatasheetVersion: Rev.1.01, Dec-2009; PackageVersion: Sep-2005; PackageReference: PLQP0080KB-A; Publisher: Altium Limited; PackageDescription: 80-Pin Plastic Low Profile QFP, 12 x 12 x 1.4 mm Body, 0.5 mm Pitch; Code_JEITA: P-LQFP80-12x12-0.50; Code_IPC: SQFP50P1400X1400-80; ComponentLink1Description: Manufacturer Link; ComponentLink1URL: http://sg.renesas.com/fmwk.jsp?cnt=m16c_family_landing.jsp&fp=/products/mpumcu/m16c_family/; ComponentLink2Description: Datasheet; ComponentLink2URL: http://documentation.renesas.com/eng/products/mpumcu/rej03b0241_r32c161ds.pdf; ComponentLink3Description: Packaging Specification; ComponentLink3URL: http://sg.renesas.com/media/products/common_info/package/pdf/ic/code/plqp0080kb_a.pdf
footprint PLQP0080KB-A_N (Shrink QFP, 80-Leads, Body 12x12mm, Pitch 0.5mm, IPC Medium Density)
footprint PLQP0080KB-A_L (Shrink QFP, 80-Leads, Body 12x12mm, Pitch 0.5mm, IPC High Density)
footprint PLQP0080KB-A_M (Shrink QFP, 80-Leads, Body 12x12mm, Pitch 0.5mm, IPC Low Density)
part A pins: 1 P9_3/TB3IN (io), 2 VDC0, 3 P9_1 (io), 4 VDC1, 5 NSD (io), 6 CNVSS (in), 7 XCIN/P8_7 (io), 8 XCOUT/P8_6 (io), 9 ~{RESET} (in), 10 XOUT (out), 12 XIN (in), 14 P8_5/~{NMI} (io), 15 P8_4/~{INT2} (io), 16 P8_3/~{INT1}/CAN0IN/~{CAN0WU}/CAN1IN/~{CAN1WU} (io), 17 P8_2/~{INT0}/CAN0OUT/CAN1OUT (io), 18 P7_6/~{CTS2}/~{RTS2}/~{SS2}/CAN0OUT (io), 19 P7_5/CLK2/LIN0IN/CAN0IN/~{CAN0WU} (io), 20 P7_4/RXD2/SCL2/STXD2/LIN0OUT (io), 21 P7_0/TXD2/SDA2/SRXD2 (io), 22 P6_7/TA3IN (io), 23 P6_5/TA0IN/TB5IN (io), 24 P5_7/TXD0/SDA0/SRXD0/IIO0_7 (io), 25 P5_6/RXD0/SCL0/STXD0/IIO0_6 (io), 26 P5_5/CLK0/IIO0_5 (io), 27 P5_4/~{CTS0}/~{RTS0}/~{SS0}/IIO0_4 (io), 28 CLKOUT/P5_3/IIO0_3 (io), 29 P5_2/IIO0_2 (io), 30 P5_1/IIO0_1 (io), 31 P5_0/IIO0_0 (io), 32 P4_7/TXD1/SDA1/SRXD1 (io), 33 P4_6/RXD1/SCL1/STXD1 (io), 34 P4_5/CLK1/LIN0IN (io), 35 P4_4/~{CTS1}/~{RTS1}/~{SS1}/LIN0OUT (io), 36 P4_3/TXD3/SSO0 (io), 37 P4_2/RXD3/SSI0 (io), 38 P4_1/CLK3/SSCK0 (io), 39 P4_0/~{CTS3}/~{RTS3}/~{SCS0} (io), 40 P3_7/TA4IN/~{U}/TB1IN/~{CTS4}/~{RTS4} (io), 41 P3_6/TA4OUT/U/TXD4 (io), 42 P3_5/TA2IN/~{W}/RXD4 (io), 43 P3_4/TA2OUT/W/CLK4 (io), 44 P3_3/TA1IN/~{V} (io), 45 P3_2/TA1OUT/V (io), 46 P3_1/TA3OUT/UD0B/LIN0IN (io), 48 P3_0/TA0OUT/UD0A/LIN0OUT (io), 50 P2_7/AN2_7 (io), 51 P2_6/AN2_6 (io), 52 P2_5/AN2_5 (io), 53 P2_4/AN2_4 (io), 54 P2_3/AN2_3 (io), 55 P2_2/AN2_2 (io), 56 P2_1/AN2_1 (io), 57 P2_0/AN2_0 (io), 58 P1_7/~{INT5}/IIO0_7 (io), 59 P1_6/~{INT4}/IIO0_6 (io), 60 P1_5/~{INT3}/IIO0_5 (io), 61 P1_4/TB0IN/IIO0_4/AN_4 (io), 62 P1_3/~{SCS0}/IIO0_3/AN_3 (io), 63 P1_2/SSI0/IIO0_2/AN_2 (io), 64 P1_1/SSCK0/IIO0_1/AN_1 (io), 65 P1_0/SSO0/IIO0_0/AN_0 (io), 66 P0_7/AN0_7 (io), 67 P0_6/AN0_6 (io), 68 P0_5/AN0_5 (io), 69 P0_4/AN0_4 (io), 70 P0_3/AN0_3 (io), 71 P0_2/AN0_2 (io), 72 P0_1/AN0_1 (io), 73 P0_0/AN0_0 (io), 74 P9_7/TB2IN/RXD4/~{ADTRG} (io), 76 P9_6/TXD4/CAN1OUT/ANEX1 (io), 77 VREF (in), 79 P9_5/CLK4/CAN1IN/~{CAN1WU}/ANEX0 (io), 80 P9_4/TB4IN/~{CTS4}/~{RTS4} (io)
part B pins: 11 VSS (power), 13 VCC (power), 47 VCC (power), 49 VSS (power), 75 AVSS (power), 78 AVCC/VCC (power)

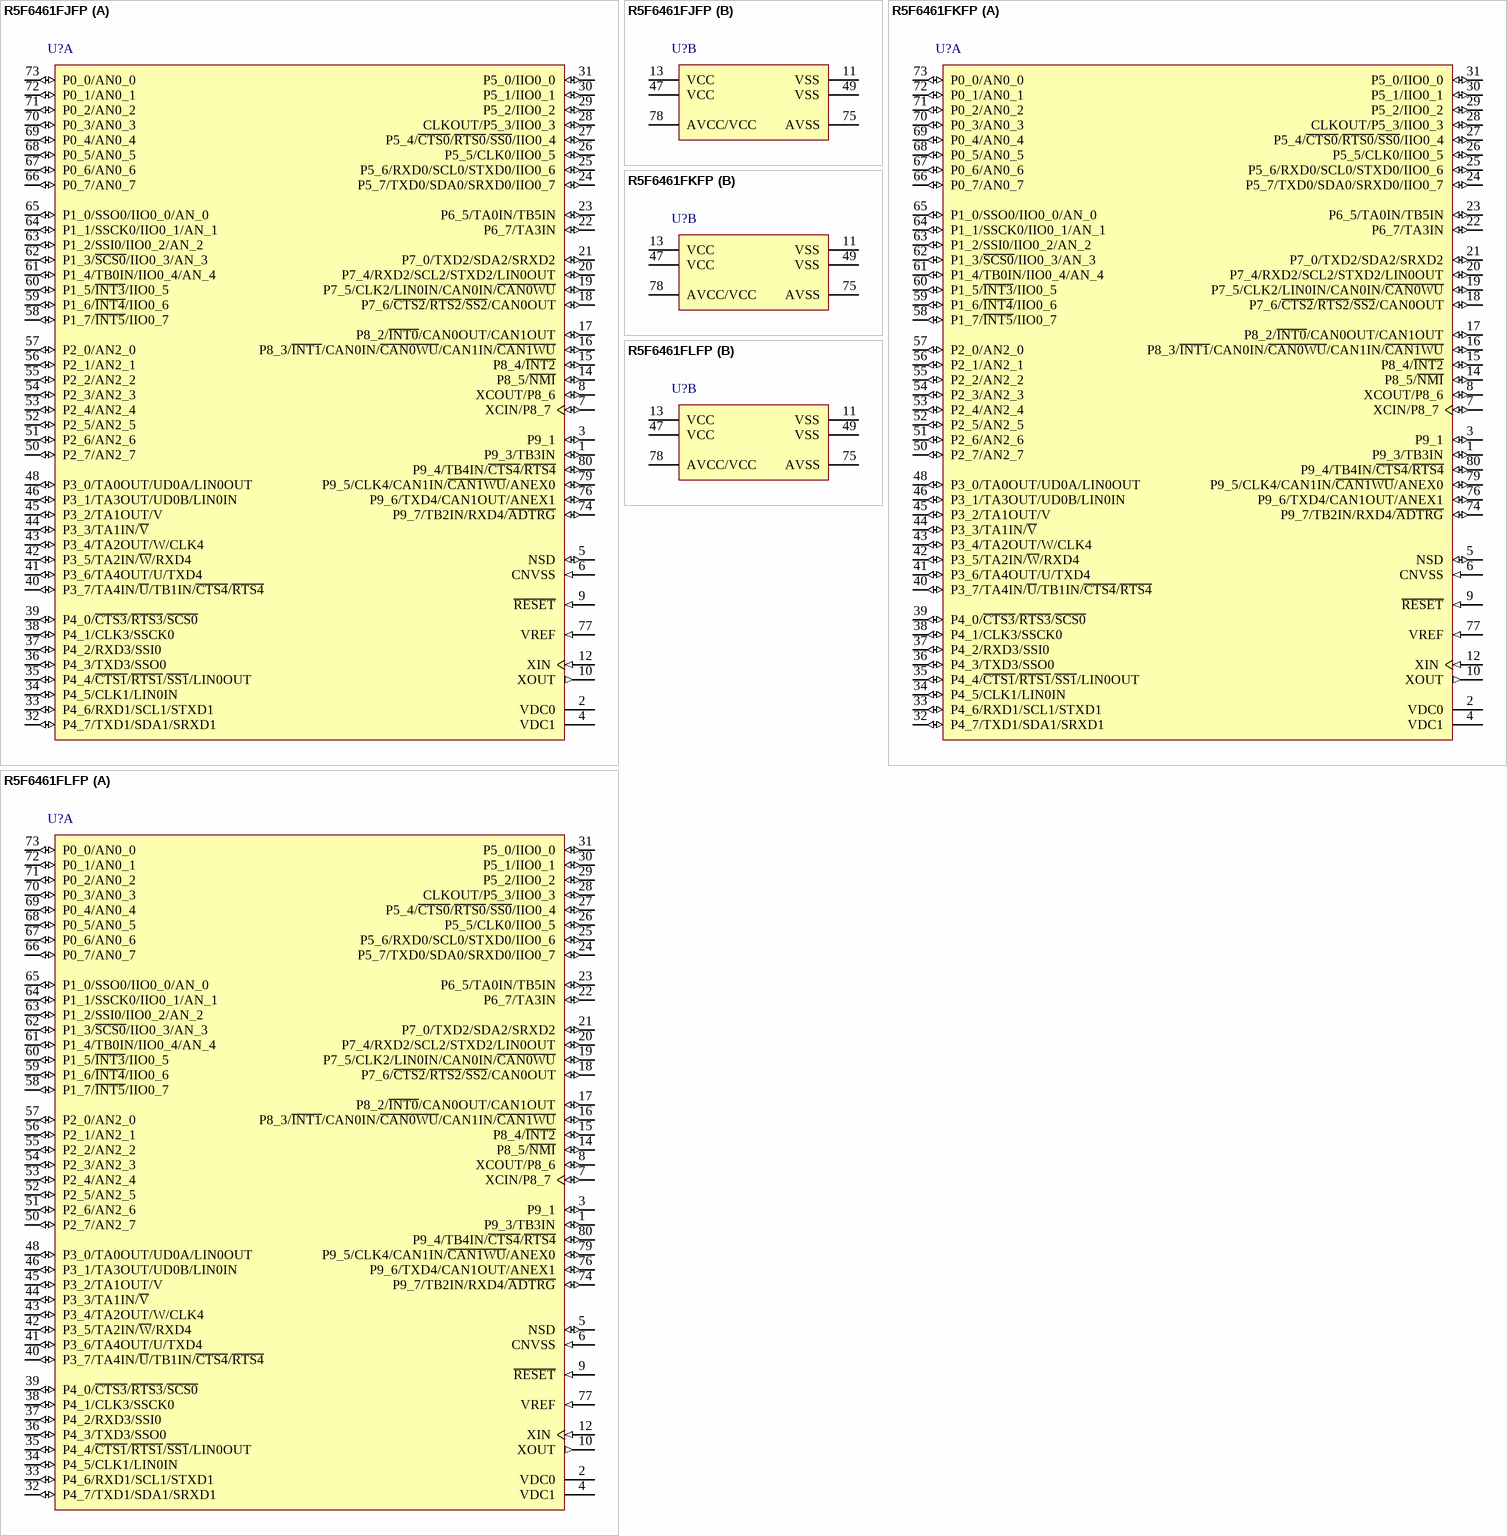
[diagram p37: symbols R5F6461FJFP to R5F6461FLFP]

## R5F6461FJFP
designator U?
Flash Memory R32C/100 Series, 161 Group MCU, 256K + 8K ROM, 20K RAM, 80-pin LQFP, Version J; Published: 28-Aug-2009; LatestRevisionDate: 26-Feb-2010; LatestRevisionNote: Updated to datasheet revision 1.01 Dec-2009.; DatasheetVersion: Rev.1.01, Dec-2009; PackageVersion: Sep-2005; PackageReference: PLQP0080KB-A; Publisher: Altium Limited; PackageDescription: 80-Pin Plastic Low Profile QFP, 12 x 12 x 1.4 mm Body, 0.5 mm Pitch; Code_JEITA: P-LQFP80-12x12-0.50; Code_IPC: SQFP50P1400X1400-80; ComponentLink1Description: Manufacturer Link; ComponentLink1URL: http://sg.renesas.com/fmwk.jsp?cnt=m16c_family_landing.jsp&fp=/products/mpumcu/m16c_family/; ComponentLink2Description: Datasheet; ComponentLink2URL: http://documentation.renesas.com/eng/products/mpumcu/rej03b0241_r32c161ds.pdf; ComponentLink3Description: Packaging Specification; ComponentLink3URL: http://sg.renesas.com/media/products/common_info/package/pdf/ic/code/plqp0080kb_a.pdf
footprint PLQP0080KB-A_N (Shrink QFP, 80-Leads, Body 12x12mm, Pitch 0.5mm, IPC Medium Density)
footprint PLQP0080KB-A_L (Shrink QFP, 80-Leads, Body 12x12mm, Pitch 0.5mm, IPC High Density)
footprint PLQP0080KB-A_M (Shrink QFP, 80-Leads, Body 12x12mm, Pitch 0.5mm, IPC Low Density)
part A pins: 1 P9_3/TB3IN (io), 2 VDC0, 3 P9_1 (io), 4 VDC1, 5 NSD (io), 6 CNVSS (in), 7 XCIN/P8_7 (io), 8 XCOUT/P8_6 (io), 9 ~{RESET} (in), 10 XOUT (out), 12 XIN (in), 14 P8_5/~{NMI} (io), 15 P8_4/~{INT2} (io), 16 P8_3/~{INT1}/CAN0IN/~{CAN0WU}/CAN1IN/~{CAN1WU} (io), 17 P8_2/~{INT0}/CAN0OUT/CAN1OUT (io), 18 P7_6/~{CTS2}/~{RTS2}/~{SS2}/CAN0OUT (io), 19 P7_5/CLK2/LIN0IN/CAN0IN/~{CAN0WU} (io), 20 P7_4/RXD2/SCL2/STXD2/LIN0OUT (io), 21 P7_0/TXD2/SDA2/SRXD2 (io), 22 P6_7/TA3IN (io), 23 P6_5/TA0IN/TB5IN (io), 24 P5_7/TXD0/SDA0/SRXD0/IIO0_7 (io), 25 P5_6/RXD0/SCL0/STXD0/IIO0_6 (io), 26 P5_5/CLK0/IIO0_5 (io), 27 P5_4/~{CTS0}/~{RTS0}/~{SS0}/IIO0_4 (io), 28 CLKOUT/P5_3/IIO0_3 (io), 29 P5_2/IIO0_2 (io), 30 P5_1/IIO0_1 (io), 31 P5_0/IIO0_0 (io), 32 P4_7/TXD1/SDA1/SRXD1 (io), 33 P4_6/RXD1/SCL1/STXD1 (io), 34 P4_5/CLK1/LIN0IN (io), 35 P4_4/~{CTS1}/~{RTS1}/~{SS1}/LIN0OUT (io), 36 P4_3/TXD3/SSO0 (io), 37 P4_2/RXD3/SSI0 (io), 38 P4_1/CLK3/SSCK0 (io), 39 P4_0/~{CTS3}/~{RTS3}/~{SCS0} (io), 40 P3_7/TA4IN/~{U}/TB1IN/~{CTS4}/~{RTS4} (io), 41 P3_6/TA4OUT/U/TXD4 (io), 42 P3_5/TA2IN/~{W}/RXD4 (io), 43 P3_4/TA2OUT/W/CLK4 (io), 44 P3_3/TA1IN/~{V} (io), 45 P3_2/TA1OUT/V (io), 46 P3_1/TA3OUT/UD0B/LIN0IN (io), 48 P3_0/TA0OUT/UD0A/LIN0OUT (io), 50 P2_7/AN2_7 (io), 51 P2_6/AN2_6 (io), 52 P2_5/AN2_5 (io), 53 P2_4/AN2_4 (io), 54 P2_3/AN2_3 (io), 55 P2_2/AN2_2 (io), 56 P2_1/AN2_1 (io), 57 P2_0/AN2_0 (io), 58 P1_7/~{INT5}/IIO0_7 (io), 59 P1_6/~{INT4}/IIO0_6 (io), 60 P1_5/~{INT3}/IIO0_5 (io), 61 P1_4/TB0IN/IIO0_4/AN_4 (io), 62 P1_3/~{SCS0}/IIO0_3/AN_3 (io), 63 P1_2/SSI0/IIO0_2/AN_2 (io), 64 P1_1/SSCK0/IIO0_1/AN_1 (io), 65 P1_0/SSO0/IIO0_0/AN_0 (io), 66 P0_7/AN0_7 (io), 67 P0_6/AN0_6 (io), 68 P0_5/AN0_5 (io), 69 P0_4/AN0_4 (io), 70 P0_3/AN0_3 (io), 71 P0_2/AN0_2 (io), 72 P0_1/AN0_1 (io), 73 P0_0/AN0_0 (io), 74 P9_7/TB2IN/RXD4/~{ADTRG} (io), 76 P9_6/TXD4/CAN1OUT/ANEX1 (io), 77 VREF (in), 79 P9_5/CLK4/CAN1IN/~{CAN1WU}/ANEX0 (io), 80 P9_4/TB4IN/~{CTS4}/~{RTS4} (io)
part B pins: 11 VSS (power), 13 VCC (power), 47 VCC (power), 49 VSS (power), 75 AVSS (power), 78 AVCC/VCC (power)